# Altium schematic symbol library ACTION_SchematicDiagramPack.SCHLIB: 273 symbols (part 1 of 3)
Pins are listed as number, name and electrical type; pins without a type are passive.

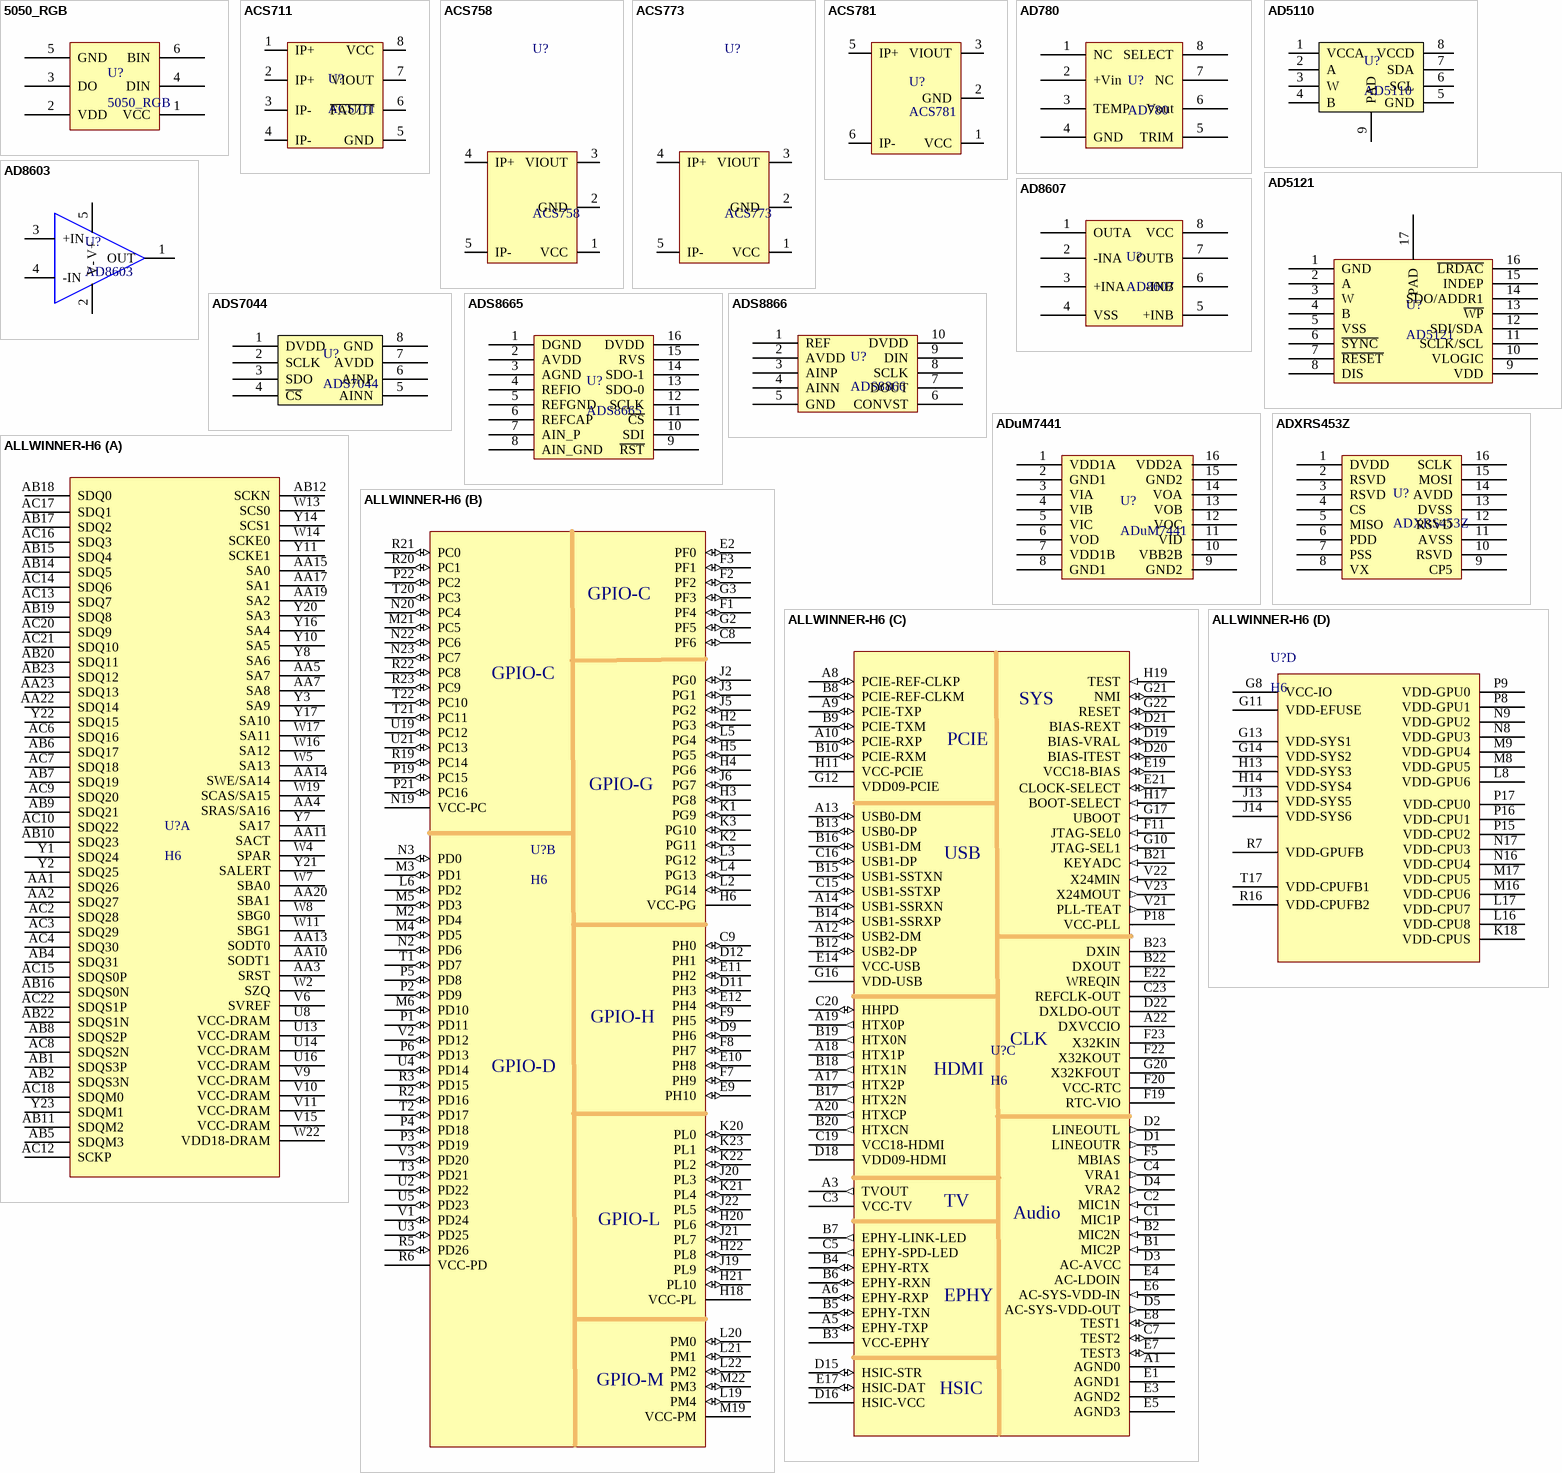
[diagram p0: symbols 5050_RGB to ALLWINNER-H6]

## 5050_RGB
designator U?
RGB LED
pins: 1 VCC, 2 VDD, 3 DO, 4 DIN, 5 GND, 6 BIN

## ACS711
designator U?
霍尔效应电流检测IC
footprint SOIC-8(4mm) (SOIC, 8-Leads, Body 5.0x4.0mm (max), Pitch 1.27mm, IPC Medium Density)
pins: 1 IP+, 2 IP+, 3 IP-, 4 IP-, 5 GND, 6 ~{FAULT}, 7 VIOUT, 8 VCC

## ACS758
designator U?
霍尔效应电流检测IC
footprint CB-5-PFF
pins: 1 VCC, 2 GND, 3 VIOUT, 4 IP+, 5 IP-

## ACS773
designator U?
霍尔效应电流检测IC
footprint CB-5-PFF
pins: 1 VCC, 2 GND, 3 VIOUT, 4 IP+, 5 IP-

## ACS781
designator U?
霍尔效应电流检测IC
footprint PSOF-7
pins: 1 VCC, 2 GND, 3 VIOUT, 5 IP+, 6 IP-

## AD780
designator U?
基准电压芯片
footprint DIP-8N
pins: 1 NC, 2 +Vin, 3 TEMP, 4 GND, 5 TRIM, 6 Vout, 7 NC, 8 SELECT

## AD5110
designator U?
数字电位器
footprint LFCSP-8
pins: 1 VCCA, 2 A, 3 W, 4 B, 5 GND, 6 SCL, 7 SDA, 8 VCCD, 9 PAD

## AD5121
designator U?
数字电位器
footprint LFCSP-16
pins: 1 GND, 2 A, 3 W, 4 B, 5 VSS, 6 ~{SYNC}, 7 ~{RESET}, 8 DIS, 9 VDD, 10 VLOGIC, 11 SCLK/SCL, 12 SDI/SDA, 13 ~{WP}, 14 SDO/ADDR1, 15 INDEP, 16 ~{LRDAC}, 17 PAD

## AD8603
designator U?
单通道运放
footprint SOT-235 (SOT23, 5-Leads, Body 3.0x2.6mm (max), Pitch 0.95mm, IPC Medium Density)
pins: 1 OUT, 2 V-, 3 +IN, 4 -IN, 5 V+

## AD8607
designator U?
双通道运放
footprint SOIC-8 (SOIC, 8-Leads, Body 5.0x4.0mm (max), Pitch 1.27mm, IPC Medium Density)
pins: 1 OUTA, 2 -INA, 3 +INA, 4 VSS, 5 +INB, 6 -INB, 7 OUTB, 8 VCC

## ADS7044
designator U?
ADC
footprint VSSOP-8 2.3*2.0mm
pins: 1 DVDD, 2 SCLK, 3 SDO, 4 ~{CS}, 5 AINN, 6 AINP, 7 AVDD, 8 GND

## ADS8665
designator U?
ADC
footprint TSSOP-16
pins: 1 DGND, 2 AVDD "同向模拟输入", 3 AGND "反向模拟输入", 4 REFIO, 5 REFGND, 6 REFCAP, 7 AIN_P (power) "高侧电", 8 AIN_GND (power) "高侧地", 9 ~{RST} "低侧地", 10 SDI, 11 ~{CS}, 12 SCLK, 13 SDO-0, 14 SDO-1 (power) "低侧电", 15 RVS, 16 DVDD (power)

## ADS8866
designator U?
ADC
footprint VSSOP-10
pins: 1 REF, 2 AVDD, 3 AINP, 4 AINN, 5 GND, 6 CONVST, 7 DOUT, 8 SCLK (power) "低侧电", 9 DIN, 10 DVDD (power)

## ADuM7441
designator U?
通信隔离
footprint QSOP-16
pins: 1 VDD1A, 2 GND1 "同向模拟输入", 3 VIA "反向模拟输入", 4 VIB, 5 VIC, 6 VOD, 7 VDD1B (power) "高侧电", 8 GND1 (power) "高侧地", 9 GND2 "低侧地", 10 VBB2B, 11 VID, 12 VOC, 13 VOB, 14 VOA (power) "低侧电", 15 GND2, 16 VDD2A (power)

## ADXRS453Z
designator U?
单轴陀螺仪
pins: 1 DVDD, 2 RSVD "同向模拟输入", 3 RSVD "反向模拟输入", 4 CS, 5 MISO, 6 PDD, 7 PSS (power) "高侧电", 8 VX (power) "高侧地", 9 CP5 "低侧地", 10 RSVD, 11 AVSS, 12 RSVD, 13 DVSS, 14 AVDD (power) "低侧电", 15 MOSI, 16 SCLK (power)

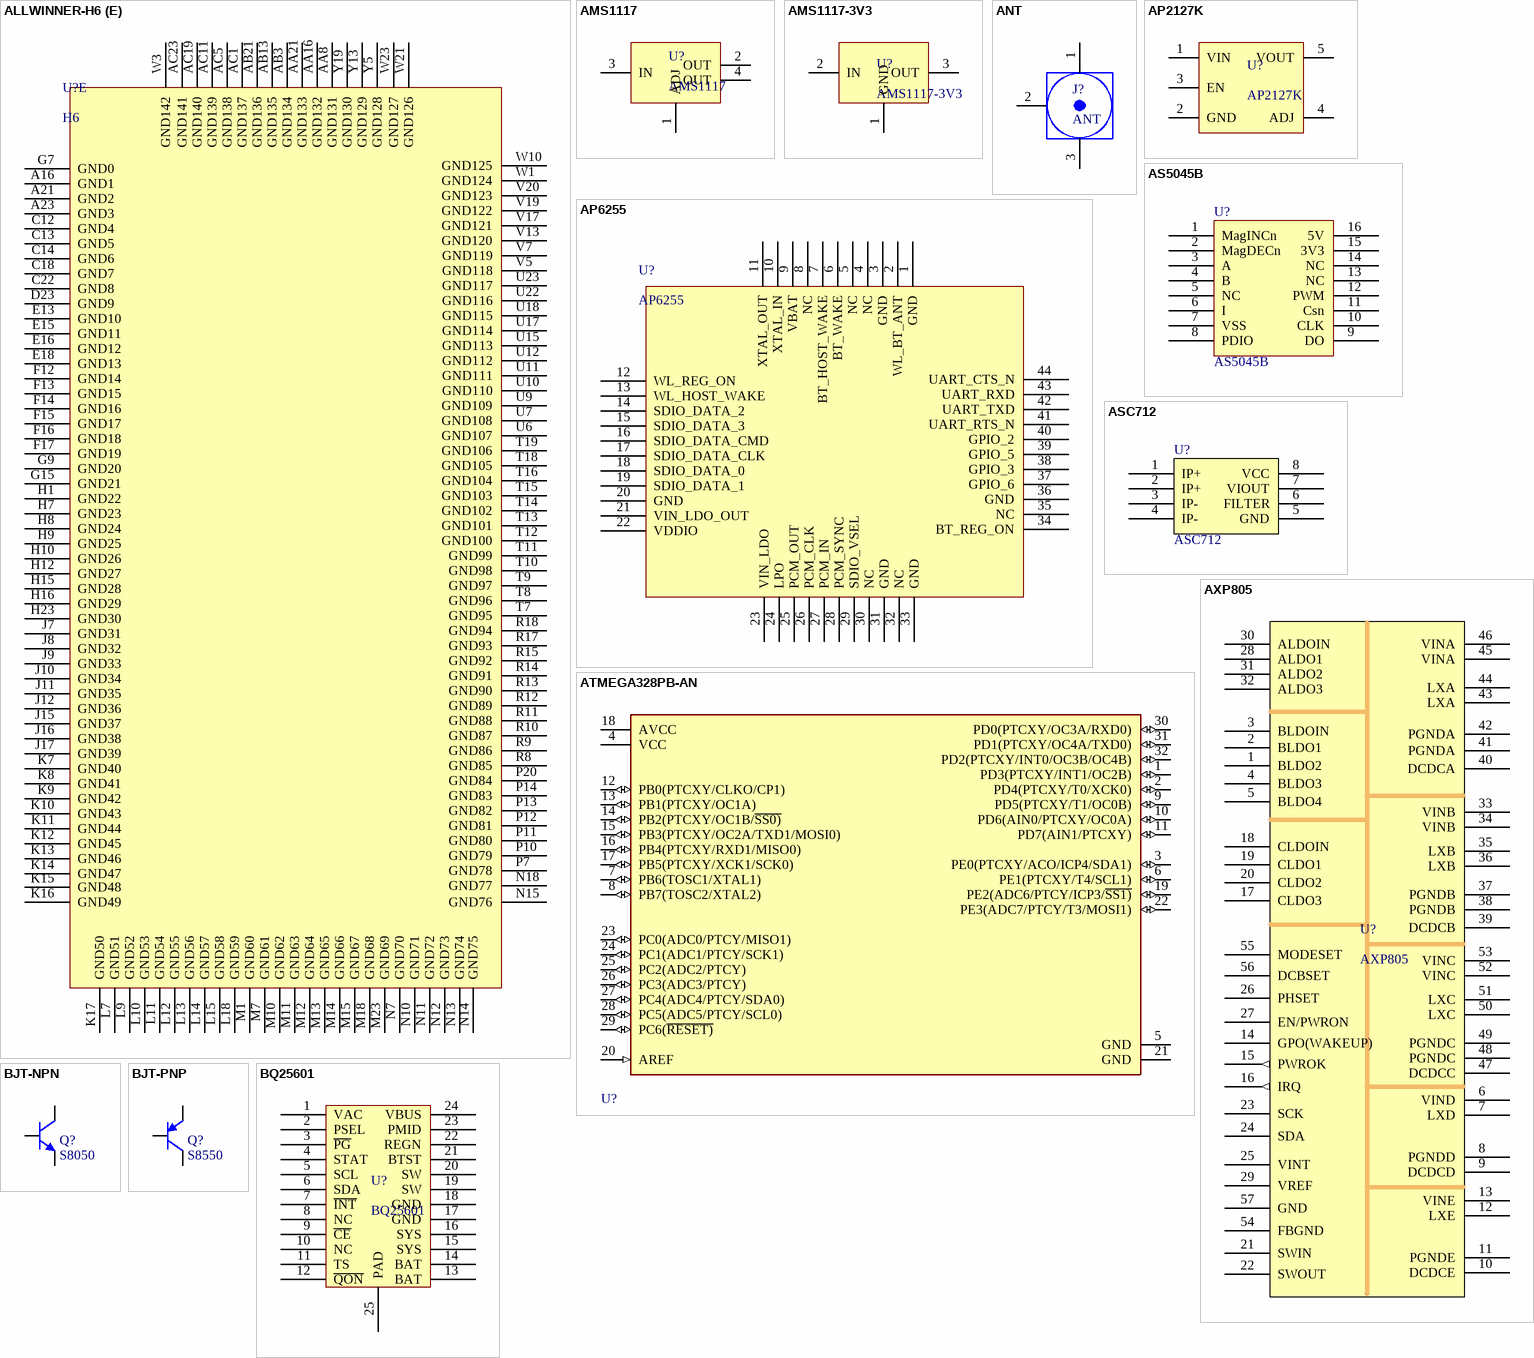
[diagram p1: symbols ALLWINNER-H6 to BQ25601]

## ALLWINNER-H6
designator U?, comment H6
CPU: Quad-core ARM Cortex -A53 Processor / GPU: Mali-T720 Multi-core / FBGA 451balls, 0.65mm ball pitch, 15mm x 15mm
part A pins: AA1 SDQ26, AA2 SDQ27, AA3 SRST, AA4 SRAS/SA16, AA5 SA7, AA7 SA8, AA10 SODT1, AA11 SACT, AA13 SODT0, AA14 SWE/SA14, AA15 SA0, AA17 SA1, AA19 SA2, AA20 SBA1, AA22 SDQ14, AA23 SDQ13, AB1 SDQS3P, AB2 SDQS3N, AB4 SDQ31, AB5 SDQM3, AB6 SDQ17, AB7 SDQ19, AB8 SDQS2P, AB9 SDQ21, AB10 SDQ23, AB11 SDQM2, AB12 SCKN, AB14 SDQ5, AB15 SDQ4, AB16 SDQS0N, AB17 SDQ2, AB18 SDQ0, AB19 SDQ8, AB20 SDQ11, AB22 SDQS1N, AB23 SDQ12, AC2 SDQ28, AC3 SDQ29, AC4 SDQ30, AC6 SDQ16, AC7 SDQ18, AC8 SDQS2N, AC9 SDQ20, AC10 SDQ22, AC12 SCKP, AC13 SDQ7, AC14 SDQ6, AC15 SDQS0P, AC16 SDQ3, AC17 SDQ1, AC18 SDQM0, AC20 SDQ9, AC21 SDQ10, AC22 SDQS1P, U8 VCC-DRAM, U13 VCC-DRAM, U14 VCC-DRAM, U16 VCC-DRAM, V6 SVREF, V9 VCC-DRAM, V10 VCC-DRAM, V11 VCC-DRAM, V15 VCC-DRAM, W2 SZQ, W4 SPAR, W5 SA13, W7 SBA0, W8 SBG0, W11 SBG1, W13 SCS0, W14 SCKE0, W16 SA12, W17 SA11, W19 SCAS/SA15, W22 VDD18-DRAM, Y1 SDQ24, Y2 SDQ25, Y3 SA9, Y7 SA17, Y8 SA6, Y10 SA5, Y11 SCKE1, Y14 SCS1, Y16 SA4, Y17 SA10, Y20 SA3, Y21 SALERT, Y22 SDQ15, Y23 SDQM1
part B pins: C8 PF6 (io), C9 PH0 (io), D9 PH6 (io), D11 PH3 (io), D12 PH1 (io), E2 PF0 (io), E9 PH10 (io), E10 PH8 (io), E11 PH2 (io), E12 PH4 (io), F1 PF4 (io), F2 PF2 (io), F3 PF1 (io), F7 PH9 (io), F8 PH7 (io), F9 PH5 (io), G2 PF5 (io), G3 PF3 (io), H2 PG3 (io), H3 PG8 (io), H4 PG6 (io), H5 PG5 (io), H6 VCC-PG (power), H18 VCC-PL (power), H20 PL6 (io), H21 PL10 (io), H22 PL8 (io), J2 PG0 (io), J3 PG1 (io), J5 PG2 (io), J6 PG7 (io), J19 PL9 (io), J20 PL3 (io), J21 PL7 (io), J22 PL5 (io), K1 PG9 (io), K2 PG11 (io), K3 PG10 (io), K20 PL0 (io), K21 PL4 (io), K22 PL2 (io), K23 PL1 (io), L2 PG14 (io), L3 PG12 (io), L4 PG13 (io), L5 PG4 (io), L6 PD2 (io), L19 PM4 (io), L20 PM0 (io), L21 PM1 (io), L22 PM2 (io), M2 PD4 (io), M3 PD1 (io), M4 PD5 (io), M5 PD3 (io), M6 PD10 (io), M19 VCC-PM (power), M21 PC5 (io), M22 PM3 (io), N2 PD6 (io), N3 PD0 (io), N19 VCC-PC (power), N20 PC4 (io), N22 PC6 (io), N23 PC7 (io), P1 PD11 (io), P2 PD9 (io), P3 PD19 (io), P4 PD18 (io), P5 PD8 (io), P6 PD13 (io), P19 PC15 (io), P21 PC16 (io), P22 PC2 (io), R2 PD16 (io), R3 PD15 (io), R5 PD26 (io), R6 VCC-PD (power), R19 PC14 (io), R20 PC1 (io), R21 PC0 (io), R22 PC8 (io), R23 PC9 (io), T1 PD7 (io), T2 PD17 (io), T3 PD21 (io), T20 PC3 (io), T21 PC11 (io), T22 PC10 (io), U2 PD22 (io), U3 PD25 (io), U4 PD14 (io), U5 PD23 (io), U19 PC12 (io), U21 PC13 (io), V1 PD24 (io), V2 PD12 (io), V3 PD20 (io)
part C pins: A1 AGND0 (power), A3 TVOUT (out), A5 EPHY-TXP (io), A6 EPHY-RXP (io), A8 PCIE-REF-CLKP (io), A9 PCIE-TXP (io), A10 PCIE-RXP (io), A12 USB2-DM (io), A13 USB0-DM (io), A14 USB1-SSRXN (io), A17 HTX2P (out), A18 HTX1P (out), A19 HTX0P (out), A20 HTXCP (out), A22 DXVCCIO, B1 MIC2P (in), B2 MIC2N (in), B3 VCC-EPHY (power), B4 EPHY-RTX (io), B5 EPHY-TXN (io), B6 EPHY-RXN (io), B7 EPHY-LINK-LED (out), B8 PCIE-REF-CLKM (io), B9 PCIE-TXM (io), B10 PCIE-RXM (io), B12 USB2-DP (io), B13 USB0-DP (io), B14 USB1-SSRXP (io), B15 USB1-SSTXN (io), B16 USB1-DM (io), B17 HTX2N (out), B18 HTX1N (out), B19 HTX0N (out), B20 HTXCN (out), B21 KEYADC (in), B22 DXOUT, B23 DXIN, C1 MIC1P (in), C2 MIC1N (in), C3 VCC-TV (power), C4 VRA1 (out), C5 EPHY-SPD-LED (out), C7 TEST2 (io), C15 USB1-SSTXP (io), C16 USB1-DP (io), C19 VCC18-HDMI (power), C20 HHPD (io), C23 REFCLK-OUT, D1 LINEOUTR (out), D2 LINEOUTL (out), D3 AC-AVCC (power), D4 VRA2 (out), D5 AC-SYS-VDD-OUT (out), D15 HSIC-STR (io), D16 HSIC-VCC (power), D18 VDD09-HDMI (power), D19 BIAS-VRAL (io), D20 BIAS-ITEST (io), D21 BIAS-REXT (io), D22 DXLDO-OUT, E1 AGND1 (power), E3 AGND2 (power), E4 AC-LDOIN (power), E5 AGND3 (power), E6 AC-SYS-VDD-IN (in), E7 TEST3 (io), E8 TEST1 (io), E14 VCC-USB (power), E17 HSIC-DAT (io), E19 VCC18-BIAS (io), E21 CLOCK-SELECT (io), E22 WREQIN, F5 MBIAS (out), F11 JTAG-SEL0 (in), F19 RTC-VIO, F20 VCC-RTC, F22 X32KOUT, F23 X32KIN, G10 JTAG-SEL1 (in), G12 VDD09-PCIE (power), G16 VDD-USB (power), G17 UBOOT (in), G20 X32KFOUT, G21 NMI (io), G22 RESET (io), H11 VCC-PCIE (power), H17 BOOT-SELECT (in), H19 TEST (in), P18 VCC-PLL (power), V21 PLL-TEAT (out), V22 X24MIN (in), V23 X24MOUT (out)
part D pins: G8 VCC-IO (power), G11 VDD-EFUSE (power), G13 VDD-SYS1 (power), G14 VDD-SYS2 (power), H13 VDD-SYS3 (power), H14 VDD-SYS4 (power), J13 VDD-SYS5 (power), J14 VDD-SYS6 (power), K18 VDD-CPUS (power), L8 VDD-GPU6 (power), L16 VDD-CPU8 (power), L17 VDD-CPU7 (power), M8 VDD-GPU5 (power), M9 VDD-GPU4 (power), M16 VDD-CPU6 (power), M17 VDD-CPU5 (power), N8 VDD-GPU3 (power), N9 VDD-GPU2 (power), N16 VDD-CPU4 (power), N17 VDD-CPU3 (power), P8 VDD-GPU1 (power), P9 VDD-GPU0 (power), P15 VDD-CPU2 (power), P16 VDD-CPU1 (power), P17 VDD-CPU0 (power), R7 VDD-GPUFB (power), R16 VDD-CPUFB2 (power), T17 VDD-CPUFB1 (power)
part E pins: A16 GND1 (power), A21 GND2 (power), A23 GND3 (power), AA8 GND131 (power), AA16 GND132 (power), AA21 GND133 (power), AB3 GND134 (power), AB13 GND135 (power), AB21 GND136 (power), AC1 GND137 (power), AC5 GND138 (power), AC11 GND139 (power), AC19 GND140 (power), AC23 GND141 (power), C12 GND4 (power), C13 GND5 (power), C14 GND6 (power), C18 GND7 (power), C22 GND8 (power), D23 GND9 (power), E13 GND10 (power), E15 GND11 (power), E16 GND12 (power), E18 GND13 (power), F12 GND14 (power), F13 GND15 (power), F14 GND16 (power), F15 GND17 (power), F16 GND18 (power), F17 GND19 (power), G7 GND0 (power), G9 GND20 (power), G15 GND21 (power), H1 GND22 (power), H7 GND23 (power), H8 GND24 (power), H9 GND25 (power), H10 GND26 (power), H12 GND27 (power), H15 GND28 (power), H16 GND29 (power), H23 GND30 (power), J7 GND31 (power), J8 GND32 (power), J9 GND33 (power), J10 GND34 (power), J11 GND35 (power), J12 GND36 (power), J15 GND37 (power), J16 GND38 (power), J17 GND39 (power), K7 GND40 (power), K8 GND41 (power), K9 GND42 (power), K10 GND43 (power), K11 GND44 (power), K12 GND45 (power), K13 GND46 (power), K14 GND47 (power), K15 GND48 (power), K16 GND49 (power), K17 GND50 (power), L7 GND51 (power), L9 GND52 (power), L10 GND53 (power), L11 GND54 (power), L12 GND55 (power), L13 GND56 (power), L14 GND57 (power), L15 GND58 (power), L18 GND59 (power), M1 GND60 (power), M7 GND61 (power), M10 GND62 (power), M11 GND63 (power), M12 GND64 (power), M13 GND65 (power), M14 GND66 (power), M15 GND67 (power), M18 GND68 (power), M23 GND69 (power), N7 GND70 (power), N10 GND71 (power), N11 GND72 (power), N12 GND73 (power), N13 GND74 (power), N14 GND75 (power), N15 GND76 (power), N18 GND77 (power), P7 GND78 (power), P10 GND79 (power), P11 GND80 (power), P12 GND81 (power), P13 GND82 (power), P14 GND83 (power), P20 GND84 (power), R8 GND85 (power), R9 GND86 (power), R10 GND87 (power), R11 GND88 (power), R12 GND89 (power), R13 GND90 (power), R14 GND91 (power), R15 GND92 (power), R17 GND93 (power), R18 GND94 (power), T7 GND95 (power), T8 GND96 (power), T9 GND97 (power), T10 GND98 (power), T11 GND99 (power), T12 GND100 (power), T13 GND101 (power), T14 GND102 (power), T15 GND103 (power), T16 GND104 (power), T18 GND105 (power), T19 GND106 (power), U6 GND107 (power), U7 GND108 (power), U9 GND109 (power), U10 GND110 (power), U11 GND111 (power), U12 GND112 (power), U15 GND113 (power), U17 GND114 (power), U18 GND115 (power), U22 GND116 (power), U23 GND117 (power), V5 GND118 (power), V7 GND119 (power), V13 GND120 (power), V17 GND121 (power), V19 GND122 (power), V20 GND123 (power), W1 GND124 (power), W3 GND142 (power), W10 GND125 (power), W21 GND126 (power), W23 GND127 (power), Y5 GND128 (power), Y13 GND129 (power), Y19 GND130 (power)
part B text: GPIO-C; GPIO-G; GPIO-H; GPIO-D; GPIO-L; GPIO-M
part C text: SYS; PCIE; USB; CLK; HDMI; TV; Audio; EPHY; HSIC

## AMS1117
designator U?
LDO
footprint SOT-223
pins: 1 ADJ, 2 OUT, 3 IN, 4 OUT

## AMS1117-3V3
designator U?
AMS1117-3V3(SOT-89封装)
pins: 1 GND, 2 IN, 3 OUT

## ANT
designator J?
天线
footprint ANT-IPX (U.FL)
pins: 1, 2, 3

## AP2127K
designator U?
LDO
footprint SOT-235 (SOT23, 5-Leads, Body 3.0x2.6mm (max), Pitch 0.95mm, IPC Medium Density)
pins: 1 VIN, 2 GND, 3 EN, 4 ADJ, 5 VOUT

## AP6255
designator U?
WL+BT
footprint AP6255
pins: 1 GND, 2 WL_BT_ANT, 3 GND, 4 NC, 5 NC, 6 BT_WAKE, 7 BT_HOST_WAKE, 8 NC, 9 VBAT, 10 XTAL_IN, 11 XTAL_OUT, 12 WL_REG_ON, 13 WL_HOST_WAKE, 14 SDIO_DATA_2, 15 SDIO_DATA_3, 16 SDIO_DATA_CMD, 17 SDIO_DATA_CLK, 18 SDIO_DATA_0, 19 SDIO_DATA_1, 20 GND, 21 VIN_LDO_OUT, 22 VDDIO, 23 VIN_LDO, 24 LPO, 25 PCM_OUT, 26 PCM_CLK, 27 PCM_IN, 28 PCM_SYNC, 29 SDIO_VSEL, 30 NC, 31 GND, 32 NC, 33 GND, 34 BT_REG_ON, 35 NC, 36 GND, 37 GPIO_6, 38 GPIO_3, 39 GPIO_5, 40 GPIO_2, 41 UART_RTS_N, 42 UART_TXD, 43 UART_RXD, 44 UART_CTS_N

## AS5045B
designator U?
磁编码器
footprint SSOP-16
pins: 1 MagINCn, 2 MagDECn, 3 A, 4 B, 5 NC, 6 I, 7 VSS, 8 PDIO, 9 DO, 10 CLK, 11 Csn, 12 PWM, 13 NC, 14 NC, 15 3V3, 16 5V

## ASC712
designator U?
霍尔效应电流检测IC
footprint SOP-8 (SOP, 8-Leads, Body 5.0x4.0mm (max), Pitch 1.27mm, IPC Medium Density)
pins: 1 IP+, 2 IP+, 3 IP-, 4 IP-, 5 GND, 6 FILTER, 7 VIOUT, 8 VCC

## ATMEGA328PB-AN
designator U?  (value not drawn)
footprint TQFP-32
pins: 1 PD3(PTCXY/INT1/OC2B) (io), 2 PD4(PTCXY/T0/XCK0) (io), 3 PE0(PTCXY/ACO/ICP4/SDA1) (io), 4 VCC (power), 5 GND (power), 6 PE1(PTCXY/T4/SCL1) (io), 7 PB6(TOSC1/XTAL1) (io), 8 PB7(TOSC2/XTAL2) (io), 9 PD5(PTCXY/T1/OC0B) (io), 10 PD6(AIN0/PTCXY/OC0A) (io), 11 PD7(AIN1/PTCXY) (io), 12 PB0(PTCXY/CLKO/CP1) (io), 13 PB1(PTCXY/OC1A) (io), 14 PB2(PTCXY/OC1B/~{SS0)} (io), 15 PB3(PTCXY/OC2A/TXD1/MOSI0) (io), 16 PB4(PTCXY/RXD1/MISO0) (io), 17 PB5(PTCXY/XCK1/SCK0) (io), 18 AVCC (power), 19 PE2(ADC6/PTCY/ICP3/~{SS1)} (io), 20 AREF (in), 21 GND (power), 22 PE3(ADC7/PTCY/T3/MOSI1) (io), 23 PC0(ADC0/PTCY/MISO1) (io), 24 PC1(ADC1/PTCY/SCK1) (io), 25 PC2(ADC2/PTCY) (io), 26 PC3(ADC3/PTCY) (io), 27 PC4(ADC4/PTCY/SDA0) (io), 28 PC5(ADC5/PTCY/SCL0) (io), 29 PC6(~{RESET)} (io), 30 PD0(PTCXY/OC3A/RXD0) (io), 31 PD1(PTCXY/OC4A/TXD0) (io), 32 PD2(PTCXY/INT0/OC3B/OC4B) (io)

## AXP805
designator U?
高度集成电源管理芯片。具有五路同步降压转换器（DCDC），多相供电功能，10路线性稳压器
footprint QFN-56-7X7
pins: 1 BLDO2, 2 BLDO1, 3 BLDOIN, 4 BLDO3, 5 BLDO4, 6 VIND, 7 LXD, 8 PGNDD, 9 DCDCD, 10 DCDCE, 11 PGNDE, 12 LXE, 13 VINE, 14 GPO(WAKEUP), 15 PWROK (out), 16 IRQ (out), 17 CLDO3, 18 CLDOIN, 19 CLDO1, 20 CLDO2, 21 SWIN, 22 SWOUT, 23 SCK, 24 SDA, 25 VINT, 26 PHSET, 27 EN/PWRON, 28 ALDO1, 29 VREF, 30 ALDOIN, 31 ALDO2, 32 ALDO3, 33 VINB, 34 VINB, 35 LXB, 36 LXB, 37 PGNDB, 38 PGNDB, 39 DCDCB, 40 DCDCA, 41 PGNDA, 42 PGNDA, 43 LXA, 44 LXA, 45 VINA, 46 VINA, 47 DCDCC, 48 PGNDC, 49 PGNDC, 50 LXC, 51 LXC, 52 VINC, 53 VINC, 54 FBGND, 55 MODESET, 56 DCBSET, 57 GND

## BJT-NPN
designator Q?, comment S8050
NPN
footprint SOT-233
pins: 1 B, 2 E, 3 C

## BJT-PNP
designator Q?, comment S8550
PNP
footprint SOT-233
pins: 1 B, 2 E, 3 C

## BQ25601
designator U?
IIC总线式电池充电IC(Li-ion/Li-Polymer)
footprint WQFN-24 (QFN, 24-Leads, Body 4.00x4.00mm, Pitch 0.50mm, Thermal Pad 2.70x2.70mm, IPC Medium Density)
pins: 1 VAC, 2 PSEL, 3 ~{PG}, 4 STAT, 5 SCL, 6 SDA, 7 ~{INT}, 8 NC "高侧地", 9 ~{CE}, 10 NC, 11 TS, 12 ~{QON}, 13 BAT, 14 BAT, 15 SYS, 16 SYS, 17 GND, 18 GND, 19 SW, 20 SW "高侧地", 21 BTST, 22 REGN, 23 PMID, 24 VBUS, 25 PAD

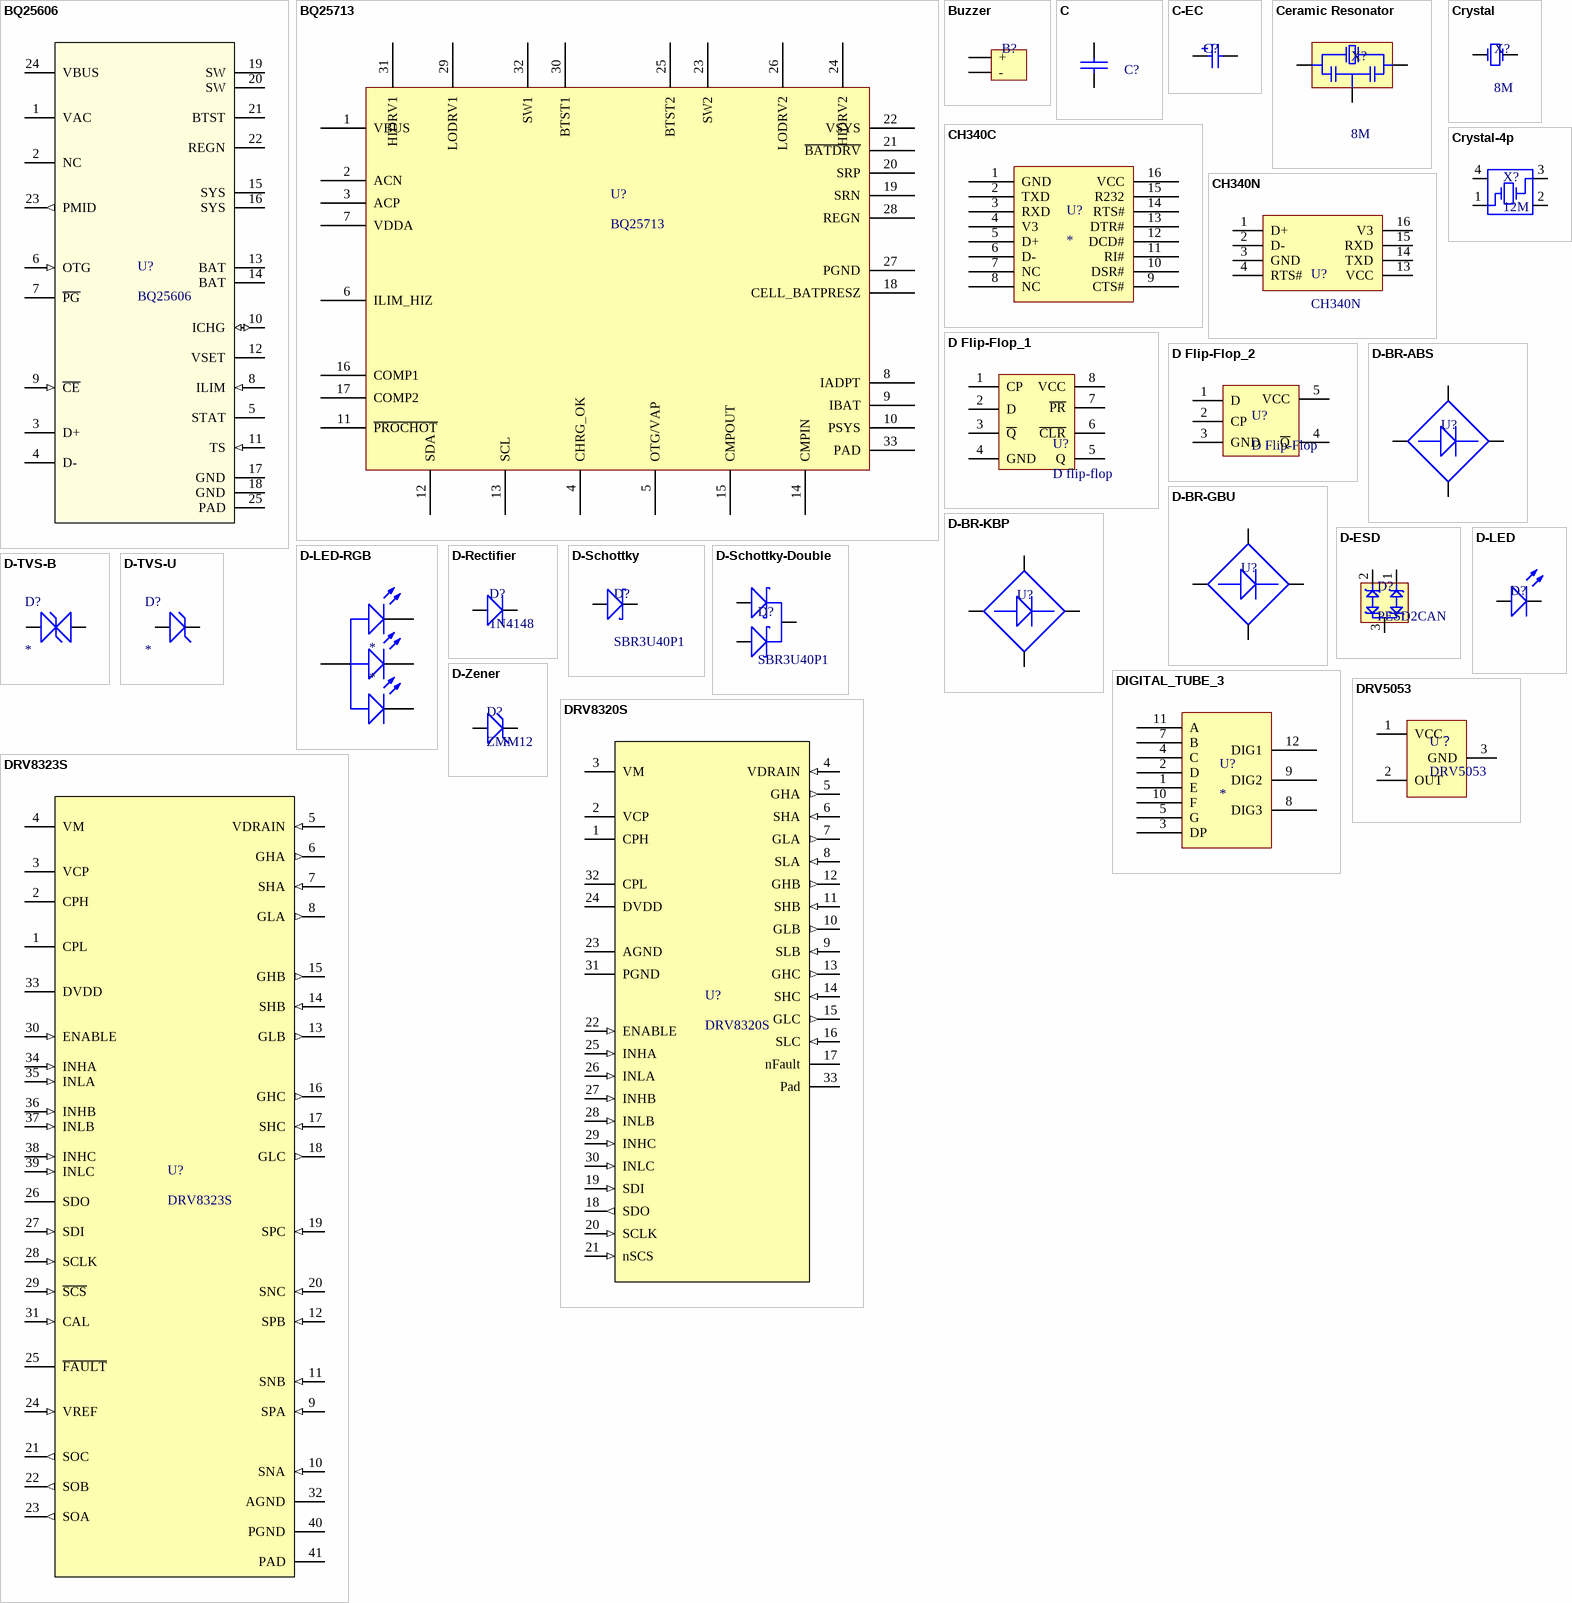
[diagram p2: symbols BQ25606 to DRV8323S]

## BQ25606
designator U?
脱机式电池充电IC(Li-ion/Li-Polymer)
footprint WQFN-24 (QFN, 24-Leads, Body 4.00x4.00mm, Pitch 0.50mm, Thermal Pad 2.70x2.70mm, IPC Medium Density)
pins: 1 VAC (power), 2 NC, 3 D+, 4 D-, 5 STAT (oc), 6 OTG (in), 7 ~{PG} (oc), 8 ILIM (in), 9 ~{CE} (in), 10 ICHG (io), 11 TS (in), 12 VSET, 13 BAT (power), 14 BAT (power), 15 SYS (power), 16 SYS (power), 17 GND (power), 18 GND (power), 19 SW (power), 20 SW (power), 21 BTST (power), 22 REGN (power), 23 PMID (out), 24 VBUS (power), 25 PAD (power)

## BQ25713
designator U?
电池充电IC(Li-ion/Li-Polymer/LiFePO4)
footprint WQFN-32
pins: 1 VBUS, 2 ACN, 3 ACP, 4 CHRG_OK, 5 OTG/VAP, 6 ILIM_HIZ, 7 VDDA, 8 IADPT, 9 IBAT, 10 PSYS, 11 ~{PROCHOT}, 12 SDA, 13 SCL, 14 CMPIN, 15 CMPOUT, 16 COMP1, 17 COMP2, 18 CELL_BATPRESZ, 19 SRN, 20 SRP "高侧地", 21 ~{BATDRV}, 22 VSYS, 23 SW2, 24 HIDRV2, 25 BTST2, 26 LODRV2, 27 PGND, 28 REGN, 29 LODRV1, 30 BTST1, 31 HIDRV1, 32 SW1, 33 PAD

## Buzzer
designator B?  (value not drawn)
蜂鸣器
footprint 蜂鸣器 9mm
pins: 1 +, 2 -

## C
designator C?
Non Polarised
footprint C-0402
footprint C-0603
footprint C-0805
footprint C-1206
footprint C-1210
footprint C-2220
footprint C-18.0*8.4-15.0
pins: 1, 2

## C-EC
designator C?
Electrolytic Capacitor
footprint CE-5.0-3.5
footprint CE-6.3-2.5
footprint CE-8.0-3.5
footprint CE-10.0-5.0
footprint CE-12.5-5.0
footprint CE-5.5
footprint CE-6.5
footprint CE-8.0
footprint CE-10.0
footprint CE-12.5
footprint CE-Ta-2917
footprint CE-30.0-10.0
footprint CE-18.0-7.5
footprint CE-16-20
pins: 1, 2
1 alternate drawing of the same symbol

## Ceramic Resonator
designator X?, comment 8M
Ceramic Resonator
footprint X-CSTCE8M
pins: 1 OSCIN, 2 GND, 3 OSCOUT

## CH340C
designator U?
USB转TTL
pins: 1 GND, 2 TXD, 3 RXD, 4 V3, 5 D+, 6 D-, 7 NC, 8 NC, 9 CTS#, 10 DSR#, 11 RI#, 12 DCD#, 13 DTR#, 14 RTS#, 15 R232, 16 VCC

## CH340N
designator U?
footprint SOP-8 (SOP, 8-Leads, Body 5.0x4.0mm (max), Pitch 1.27mm, IPC Medium Density)
pins: 1 D+, 2 D-, 3 GND, 4 RTS#, 13 VCC, 14 TXD, 15 RXD, 16 V3

## Crystal
designator X?, comment 8M
Crystal Oscillator; Published: 8-Jun-2000; LatestRevisionDate: 17-Jul-2002; LatestRevisionNote: Re-released for DXP Platform.; PackageReference: R38; Publisher: Altium Limited
footprint X-HC49S
footprint X-5032
footprint X-HC49SMD
footprint X-SMD-3215-2P
pins: 1 OSC1, 2 OSC2

## Crystal-4p
designator X?, comment 12M
Crystal Oscillator
footprint X-SMD-3225-4P
pins: 1 OSC1, 2 GND, 3 OSC2, 4 GND

## D Flip-Flop_1
designator U?, comment D flip-flop
pins: 1 CP, 2 D, 3 ~{Q}, 4 GND, 5 Q, 6 ~{CLR}, 7 ~{PR}, 8 VCC

## D Flip-Flop_2
designator U?, comment D Flip-Flop
footprint SC-70-5
pins: 1 D, 2 CP, 3 GND, 4 ~{Q}, 5 VCC

## D-BR-ABS
designator U?
ABS封装整流桥
footprint D-BR-ABS
pins: 1 AC, 2 AC, 3 DC+, 4 DC-

## D-BR-GBU
designator U?
GBU封装整流桥
footprint D-BR-GBU
pins: 1 DC+, 2 AC, 3 AC, 4 DC-

## D-BR-KBP
designator U?
KBP封装整流桥
footprint D-BR-KBP
pins: 1 DC+, 2 AC, 3 AC, 4 DC-

## D-ESD
designator D?, comment PESD2CAN
组合ESD二极管
footprint SOT-233
pins: 1, 2, 3

## D-LED
designator D?
LED
footprint D-LED-0805
footprint D-LED-2.5-2.0
footprint D-LED-0603Blue
footprint D-LED-0603Green
footprint D-LED-0603Red
footprint D-LED-0603White
footprint D-LED-0603Yellow
footprint D-LED-3.0-2.54
pins: 1, 2

## D-LED-RGB
designator *
footprint D-LED-5mm(4PIN)
pins: 1 RED, 2, 3 GREEN, 4 BLUE

## D-Rectifier
designator D?, comment 1N4148
Rectifier
pins: 1 A, 2 K

## D-Schottky
designator D?, comment SBR3U40P1
Schottky
footprint D-PowerDI 123
footprint DO-214AB(SMC)
footprint DO-214AC(SMA)
pins: 1, 2

## D-Schottky-Double
designator D?, comment SBR3U40P1
Schottky
footprint TO-263-3
pins: 1, 2, 3

## D-TVS-B
designator D?
双向TVS
footprint DFN1006-2L
footprint D-FBP-02C
pins: 1 A, 2 K

## D-TVS-U
designator D?
单向TVS
pins: 1 A, 2 K

## D-Zener
designator D?, comment ZMM12
Zener
footprint D-1n4148-圆柱
pins: 1 A, 2 K

## DIGITAL_TUBE_3
designator U?
3位数码管
pins: 1 E, 2 D, 3 DP, 4 C, 5 G, 7 B, 8 DIG3, 9 DIG2, 10 F, 11 A, 12 DIG1

## DRV5053
designator U？
线性霍尔
pins: 1 VCC, 2 OUT, 3 GND

## DRV8320S
designator U?
智能三相栅极驱动器
footprint WQFN-32
pins: 1 CPH, 2 VCP (power), 3 VM (power), 4 VDRAIN (in), 5 GHA (out), 6 SHA (in), 7 GLA (out), 8 SLA (in), 9 SLB (in), 10 GLB (out), 11 SHB (in), 12 GHB (out), 13 GHC (out), 14 SHC (in), 15 GLC (out), 16 SLC (in), 17 nFault (oc), 18 SDO (out), 19 SDI (in), 20 SCLK (in), 21 nSCS (in), 22 ENABLE (in), 23 AGND (power), 24 DVDD (power), 25 INHA (in), 26 INLA (in), 27 INHB (in), 28 INLB (in), 29 INHC (in), 30 INLC (in), 31 PGND (power), 32 CPL, 33 Pad (power)

## DRV8323S
designator U?
智能三相栅极驱动器; Manufacturer: Texas Instruments; PartNumber: DRV8323S; RefDes: RefDes; TYPE: TYPE; Value: Value
footprint WQFN-40
pins: 1 CPL, 2 CPH, 3 VCP (power), 4 VM (power), 5 VDRAIN (in), 6 GHA (out), 7 SHA (in), 8 GLA (out), 9 SPA (in), 10 SNA (in), 11 SNB (in), 12 SPB (in), 13 GLB (out), 14 SHB (in), 15 GHB (out), 16 GHC (out), 17 SHC (in), 18 GLC (out), 19 SPC (in), 20 SNC (in), 21 SOC (out), 22 SOB (out), 23 SOA (out), 24 VREF (in), 25 ~{FAULT} (oc), 26 SDO, 27 SDI (in), 28 SCLK (in), 29 ~{SCS} (in), 30 ENABLE (in), 31 CAL (in), 32 AGND (power), 33 DVDD (power), 34 INHA (in), 35 INLA (in), 36 INHB (in), 37 INLB (in), 38 INHC (in), 39 INLC (in), 40 PGND (power), 41 PAD (power)

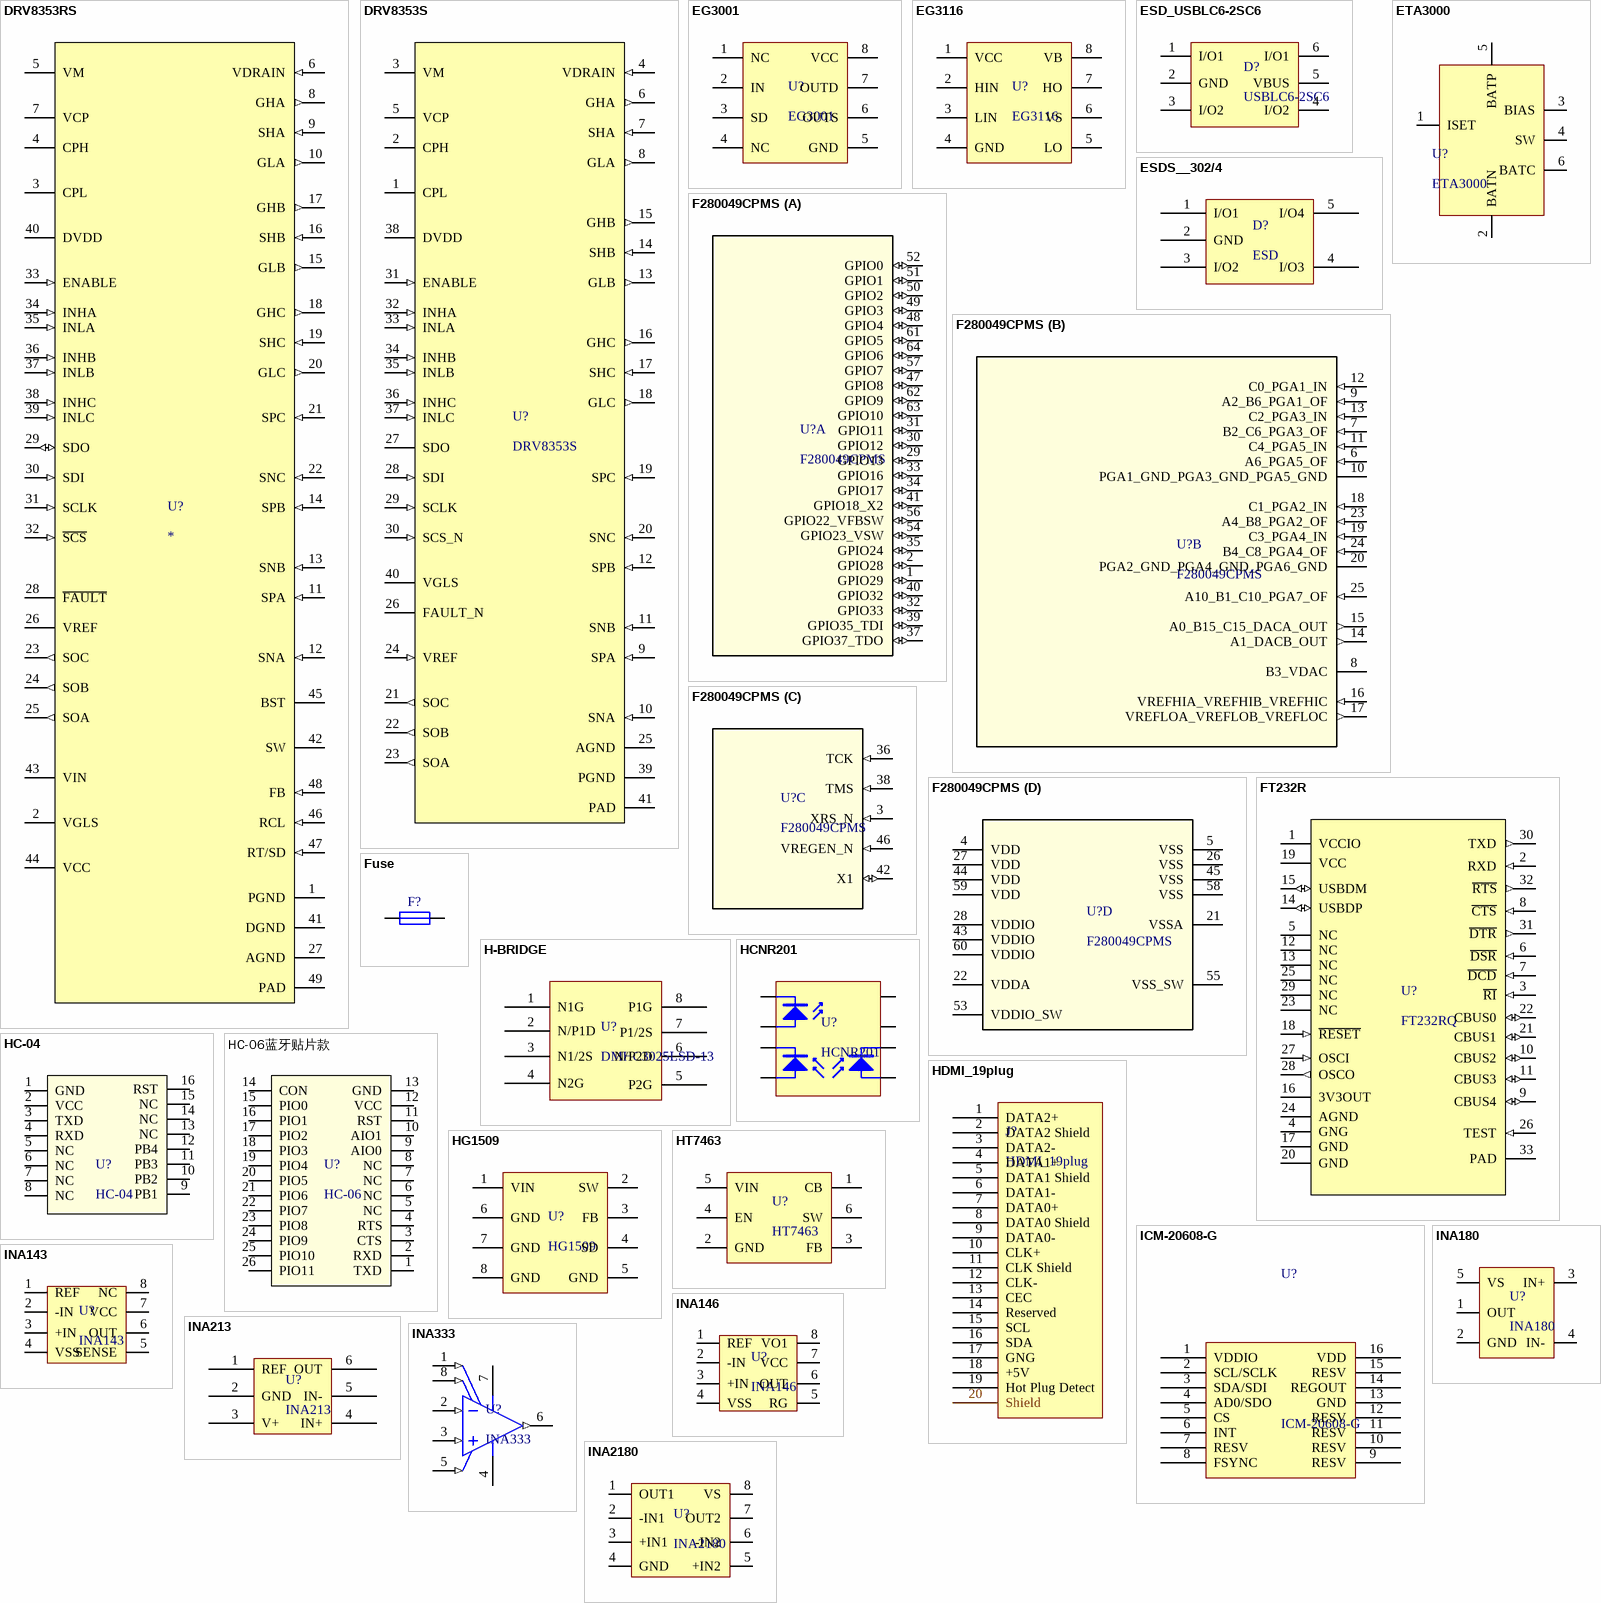
[diagram p3: symbols DRV8353RS to INA2180]

## DRV8353RS
designator U?
智能三相栅极驱动器; Manufacturer: Texas Instruments; PartNumber: DRV8353RHRGZR; RefDes: RefDes; Type: DEV; Value: Value; Copyright: Copyright (C) 2018 Accelerated Designs. All rights reserved
footprint RGZ0048L
pins: 1 PGND (power), 2 VGLS (power), 3 CPL (power), 4 CPH (power), 5 VM (power), 6 VDRAIN (in), 7 VCP (power), 8 GHA (out), 9 SHA (in), 10 GLA (out), 11 SPA (in), 12 SNA (in), 13 SNB (in), 14 SPB (in), 15 GLB (out), 16 SHB (in), 17 GHB (out), 18 GHC (out), 19 SHC (in), 20 GLC (out), 21 SPC (in), 22 SNC (in), 23 SOC (out), 24 SOB (out), 25 SOA (out), 26 VREF (power), 27 AGND (power), 28 ~{FAULT} (oc), 29 SDO (io), 30 SDI (in), 31 SCLK (in), 32 ~{SCS} (in), 33 ENABLE (in), 34 INHA (in), 35 INLA (in), 36 INHB (in), 37 INLB (in), 38 INHC (in), 39 INLC (in), 40 DVDD (power), 41 DGND (power), 42 SW (power), 43 VIN (power), 44 VCC (power), 45 BST (power), 46 RCL (in), 47 RT/SD (in), 48 FB (in), 49 PAD (power)

## DRV8353S
designator U?
智能三相栅极驱动器; PartNumber: DRV8353SRTAR; Manufacturer: Texas Instruments; RefDes: RefDes; TYPE: TYPE; Value: Value
footprint WQFN-40
pins: 1 CPL, 2 CPH, 3 VM (power), 4 VDRAIN (in), 5 VCP (power), 6 GHA (out), 7 SHA (in), 8 GLA (out), 9 SPA (in), 10 SNA (in), 11 SNB (in), 12 SPB (in), 13 GLB (out), 14 SHB (in), 15 GHB (out), 16 GHC (out), 17 SHC (in), 18 GLC (out), 19 SPC (in), 20 SNC (in), 21 SOC (out), 22 SOB (out), 23 SOA (out), 24 VREF (in), 25 AGND (power), 26 FAULT_N (oc), 27 SDO, 28 SDI (in), 29 SCLK (in), 30 SCS_N (in), 31 ENABLE (in), 32 INHA (in), 33 INLA (in), 34 INHB (in), 35 INLB (in), 36 INHC (in), 37 INLC (in), 38 DVDD (power), 39 PGND (power), 40 VGLS (power), 41 PAD (power)

## EG3001
designator U?
低侧驱动器
footprint SOIC-8(4mm) (SOIC, 8-Leads, Body 5.0x4.0mm (max), Pitch 1.27mm, IPC Medium Density)
pins: 1 NC, 2 IN, 3 SD, 4 NC, 5 GND, 6 OUTS, 7 OUTD, 8 VCC

## EG3116
designator U?
半桥驱动器
footprint SOIC-8(4mm) (SOIC, 8-Leads, Body 5.0x4.0mm (max), Pitch 1.27mm, IPC Medium Density)
pins: 1 VCC, 2 HIN, 3 LIN, 4 GND, 5 LO, 6 VS, 7 HO, 8 VB

## ESD_USBLC6-2SC6
designator D?, comment USBLC6-2SC6
USB ESD芯片 3.5PF(适用于2.0)
footprint SOT-236
pins: 1 I/O1, 2 GND, 3 I/O2, 4 I/O2, 5 VBUS, 6 I/O1

## ESDS__302/4
designator D?, comment ESD
The ESDS302, ESDS304 devices are bidirectional TVS ESD protection diode array in two and four channel configurations respectively, for Ethernet and USB surge protection up to 12 A (8/20 μs). The ESDS302, ESDS304 devices are rated to dissipate ESD strikes up to 30 kV per the IEC 61000-4-2 international standard (> Level 4). / The devices features a 2.3-pF IO capacitance per channel making it ideal for protecting high-speed interfaces such as Ethernet 1G and USB 2.0.
footprint SOT-235 (SOT23, 5-Leads, Body 3.0x2.6mm (max), Pitch 0.95mm, IPC Medium Density)
pins: 1 I/O1, 2 GND, 3 I/O2, 4 I/O3, 5 I/O4

## ETA3000
designator U?
锂电池主动式平衡芯片 MAX = 2A
footprint SOT-236
pins: 1 ISET, 2 BATN, 3 BIAS, 4 SW, 5 BATP "0", 6 BATC

## F280049CPMS
designator U?
TMS320C28x 32 位 CPU – 100MHz – IEEE-754 单精度浮点单元 (FPU) – 三角法数学单元 (TMU) 可编程控制律加速器 (CLA)
part A pins: 1 GPIO29 (io), 2 GPIO28 (io), 29 GPIO13 (io), 30 GPIO12 (io), 31 GPIO11 (io), 32 GPIO33 (io), 33 GPIO16 (io), 34 GPIO17 (io), 35 GPIO24 (io), 37 GPIO37_TDO (io), 39 GPIO35_TDI (io), 40 GPIO32 (io), 41 GPIO18_X2 (io), 47 GPIO8 (io), 48 GPIO4 (io), 49 GPIO3 (io), 50 GPIO2 (io), 51 GPIO1 (io), 52 GPIO0 (io), 54 GPIO23_VSW (io), 56 GPIO22_VFBSW (io), 57 GPIO7 (io), 61 GPIO5 (io), 62 GPIO9 (io), 63 GPIO10 (io), 64 GPIO6 (io)
part B pins: 6 A6_PGA5_OF (in), 7 B2_C6_PGA3_OF (in), 8 B3_VDAC, 9 A2_B6_PGA1_OF (in), 10 PGA1_GND_PGA3_GND_PGA5_GND (power), 11 C4_PGA5_IN (in), 12 C0_PGA1_IN (in), 13 C2_PGA3_IN (in), 14 A1_DACB_OUT (out), 15 A0_B15_C15_DACA_OUT (out), 16 VREFHIA_VREFHIB_VREFHIC (in), 17 VREFLOA_VREFLOB_VREFLOC (out), 18 C1_PGA2_IN (in), 19 C3_PGA4_IN (in), 20 PGA2_GND_PGA4_GND_PGA6_GND (power), 23 A4_B8_PGA2_OF (in), 24 B4_C8_PGA4_OF (in), 25 A10_B1_C10_PGA7_OF (in)
part C pins: 3 XRS_N (in), 36 TCK (in), 38 TMS (in), 42 X1 (io), 46 VREGEN_N (in)
part D pins: 4 VDD (power), 5 VSS (power), 21 VSSA (power), 22 VDDA (power), 26 VSS (power), 27 VDD (power), 28 VDDIO (power), 43 VDDIO (power), 44 VDD (power), 45 VSS (power), 53 VDDIO_SW (power), 55 VSS_SW (power), 58 VSS (power), 59 VDD (power), 60 VDDIO (power)

## FT232R
designator U?, comment FT232RQ
USB-TTL(稳定，不会蓝屏)
footprint WQFN-32
pins: 1 VCCIO (power), 2 RXD (in), 3 ~{RI} (in), 4 GNG (power), 5 NC, 6 ~{DSR} (in), 7 ~{DCD} (in), 8 ~{CTS} (in), 9 CBUS4 (io), 10 CBUS2 (io), 11 CBUS3 (io), 12 NC, 13 NC, 14 USBDP (io), 15 USBDM (io), 16 3V3OUT (power), 17 GND (power), 18 ~{RESET} (in), 19 VCC (power), 20 GND (power), 21 CBUS1 (io), 22 CBUS0 (io), 23 NC, 24 AGND (power), 25 NC, 26 TEST (in), 27 OSCI (in), 28 OSCO (out), 29 NC, 30 TXD (out), 31 ~{DTR} (out), 32 ~{RTS} (out), 33 PAD (power)

## Fuse
designator F?
Fuse
footprint FUSE-8.5-5.0
pins: 1, 2

## H-BRIDGE
designator U?, comment DMHC3025LSD-13
30V  H-BRIDGE / SOIC-8封装
pins: 1 N1G, 2 N/P1D, 3 N1/2S, 4 N2G, 5 P2G, 6 N/P2D, 7 P1/2S, 8 P1G

## HC-04
designator U?
HC-04蓝牙贴片款
footprint HC-04贴片16P
pins: 1 GND, 2 VCC, 3 TXD, 4 RXD, 5 NC, 6 NC, 7 NC, 8 NC, 9 PB1, 10 PB2, 11 PB3, 12 PB4, 13 NC, 14 NC, 15 NC, 16 RST

## HC-06蓝牙贴片款
designator U?, comment HC-06
Telesky旗舰店购买的HC-06
footprint HC-06蓝牙贴片款
pins: 1 TXD, 2 RXD, 3 CTS, 4 RTS, 5 NC, 6 NC, 7 NC, 8 NC, 9 AIO0, 10 AIO1, 11 RST, 12 VCC, 13 GND, 14 CON, 15 PIO0, 16 PIO1, 17 PIO2, 18 PIO3, 19 PIO4, 20 PIO5, 21 PIO6, 22 PIO7, 23 PIO8, 24 PIO9, 25 PIO10, 26 PIO11

## HCNR201
designator U?
线性光耦
footprint HCNR201
pins: 1 K, 2 LED A, 3 PD1 K, 4 PD1 A, 5 PD2 A, 6 PD2 K, 7 NC, 8 NC

## HDMI_19plug
designator J?
HDMI标准接口
footprint HDMI-19P
pins: 1 DATA2+, 2 DATA2 Shield, 3 DATA2-, 4 DATA1+, 5 DATA1 Shield, 6 DATA1-, 7 DATA0+, 8 DATA0 Shield, 9 DATA0-, 10 CLK+, 11 CLK Shield, 12 CLK-, 13 CEC, 14 Reserved, 15 SCL, 16 SDA, 17 GNG, 18 +5V, 19 Hot Plug Detect, 20 Shield

## HG1509
designator U?
Buck
footprint SOIC-8(4mm) (SOIC, 8-Leads, Body 5.0x4.0mm (max), Pitch 1.27mm, IPC Medium Density)
pins: 1 VIN, 2 SW, 3 FB, 4 SD, 5 GND, 6 GND, 7 GND, 8 GND

## HT7463
designator U?
Buck Converter
footprint SOT-236
pins: 1 CB, 2 GND, 3 FB, 4 EN, 5 VIN, 6 SW

## ICM-20608-G
designator U?
陀螺仪
footprint ICM-20608-G
pins: 1 VDDIO, 2 SCL/SCLK, 3 SDA/SDI, 4 AD0/SDO, 5 CS, 6 INT, 7 RESV, 8 FSYNC, 9 RESV, 10 RESV, 11 RESV, 12 RESV, 13 GND, 14 REGOUT, 15 RESV, 16 VDD

## INA143
designator U?
电流检测IC
footprint SO-8W
pins: 1 REF, 2 -IN, 3 +IN, 4 VSS, 5 SENSE, 6 OUT, 7 VCC, 8 NC

## INA146
designator U?
电流检测IC
footprint SOIC-8 (SOIC, 8-Leads, Body 5.0x4.0mm (max), Pitch 1.27mm, IPC Medium Density)
pins: 1 REF, 2 -IN, 3 +IN, 4 VSS, 5 RG, 6 OUT, 7 VCC, 8 VO1

## INA180
designator U?
电流检测IC
footprint SOT-235 (SOT23, 5-Leads, Body 3.0x2.6mm (max), Pitch 0.95mm, IPC Medium Density)
pins: 1 OUT, 2 GND, 3 IN+, 4 IN-, 5 VS

## INA213
designator U?
电流检测IC
footprint SOT-363
pins: 1 REF, 2 GND, 3 V+, 4 IN+, 5 IN-, 6 OUT

## INA333
designator U?
低偏置 精密仪表放大器
footprint MSOP-8
pins: 1 RG (in), 2 VIN- (in), 3 VIN+ (in), 4 V- (power), 5 REF (in), 6 VOUT (out), 7 V+ (power), 8 RG (in)

## INA2180
designator U?
电流检测IC
footprint VSSOP-8 3.0*3.0mm
pins: 1 OUT1, 2 -IN1, 3 +IN1, 4 GND, 5 +IN2, 6 -IN2, 7 OUT2, 8 VS

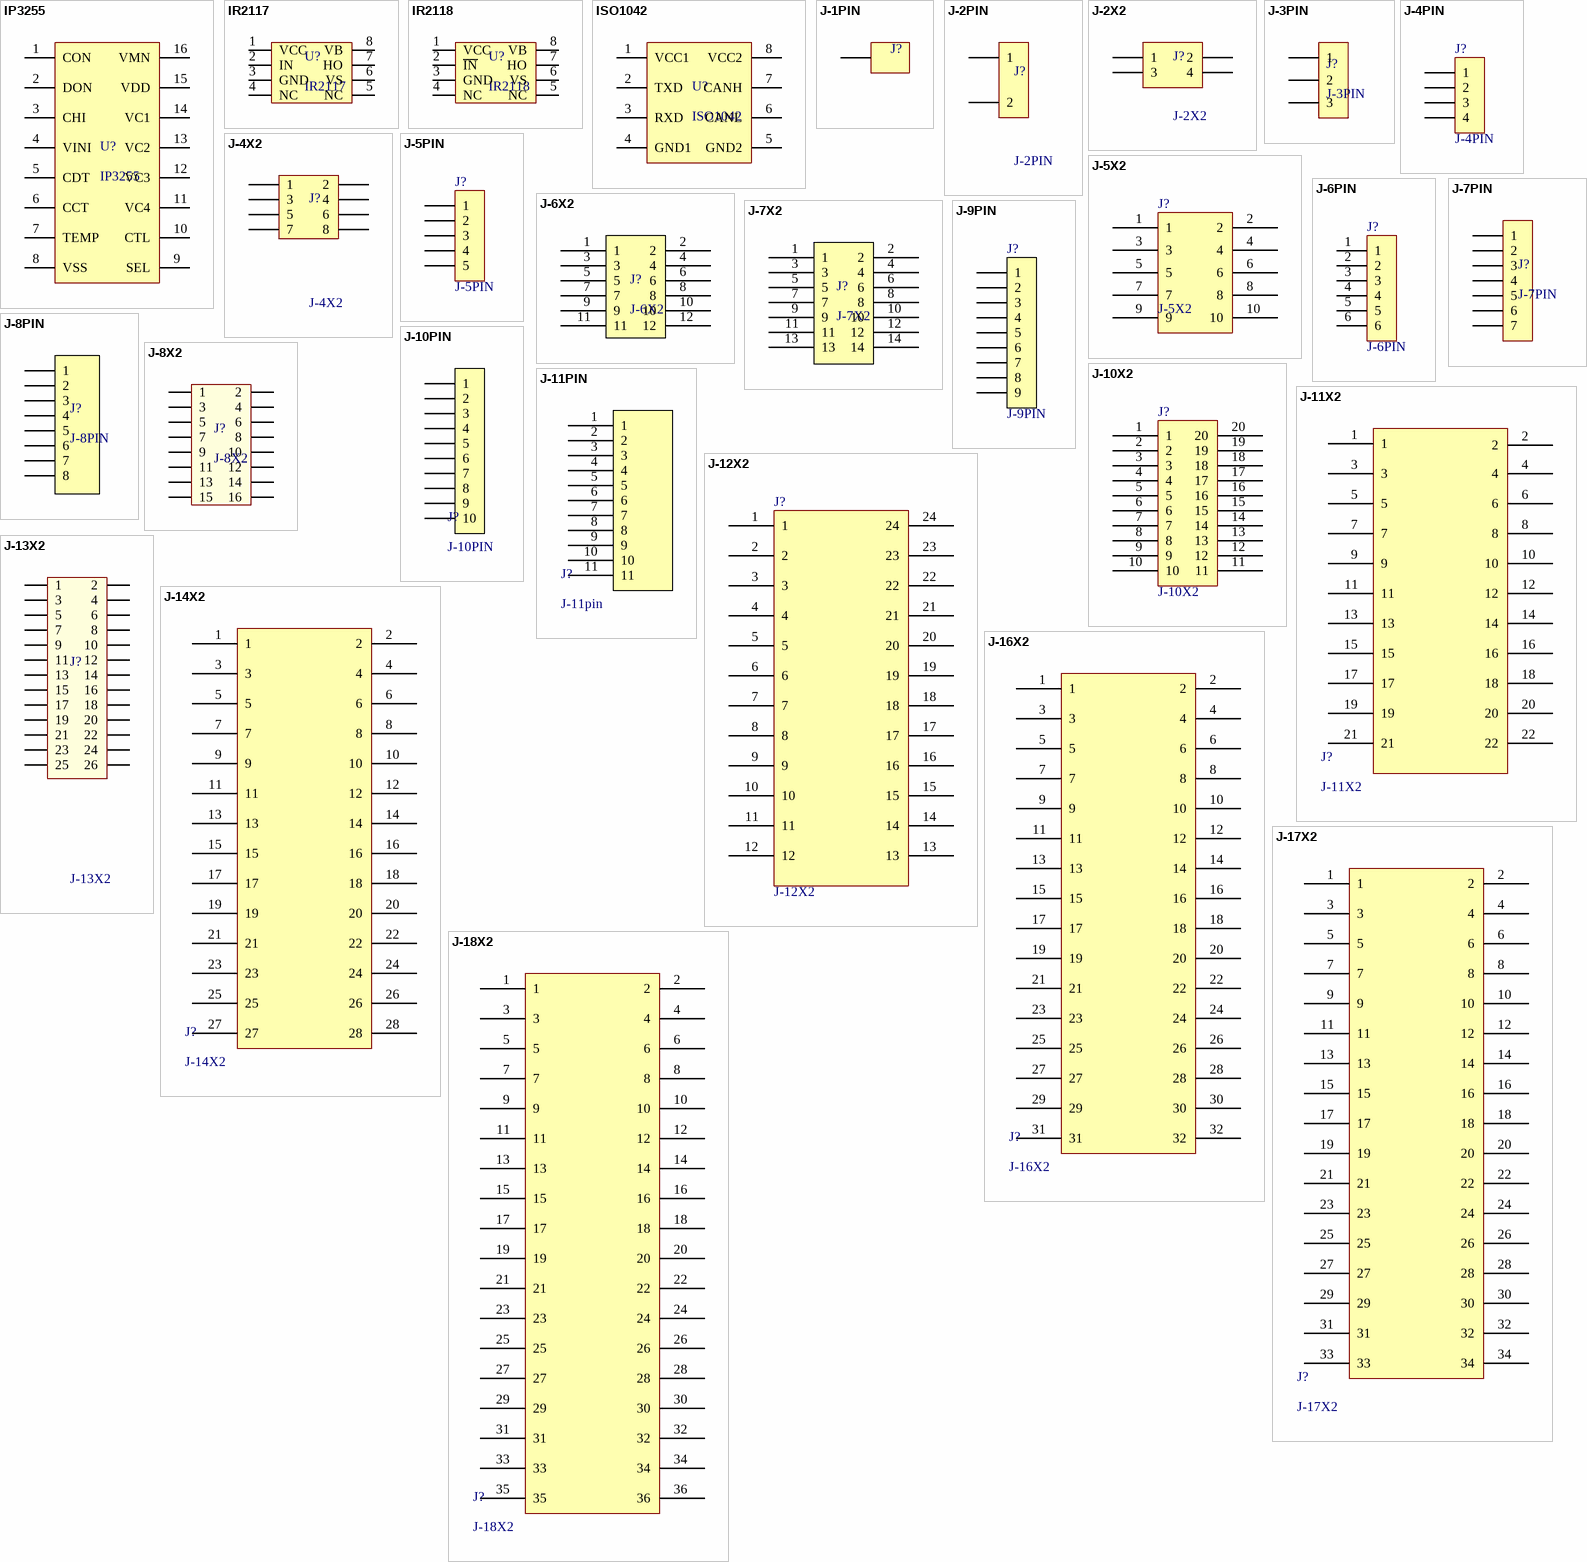
[diagram p4: symbols IP3255 to J-18X2]

## IP3255
designator U?
3 节/4 节串联用电池保护 IC
footprint TSSOP-16
pins: 1 CON, 2 DON, 3 CHI, 4 VINI, 5 CDT, 6 CCT, 7 TEMP, 8 VSS, 9 SEL, 10 CTL, 11 VC4, 12 VC3, 13 VC2, 14 VC1, 15 VDD, 16 VMN

## IR2117
designator U?
栅极驱动器
footprint SOIC-8 (SOIC, 8-Leads, Body 5.0x4.0mm (max), Pitch 1.27mm, IPC Medium Density)
pins: 1 VCC, 2 IN, 3 GND, 4 NC, 5 NC, 6 VS, 7 HO, 8 VB

## IR2118
designator U?
栅极驱动器
pins: 1 VCC, 2 ~{IN}, 3 GND, 4 NC, 5 NC, 6 VS, 7 HO, 8 VB

## ISO1042
designator U?
隔离型CAN收发器
footprint SOIC-8(7.5mm)
pins: 1 VCC1, 2 TXD, 3 RXD, 4 GND1, 5 GND2, 6 CANL, 7 CANH, 8 VCC2

## J-1PIN
designator J?
pins: 1 15

## J-2PIN
designator J?
pins: 1, 2

## J-2X2
designator J?
LatestRevisionDate: 17-Jul-2002; LatestRevisionNote: Re-released for DXP Platform.; Publisher: Altium Limited
pins: 1, 2, 3, 4

## J-3PIN
designator J?
pins: 1, 2, 3

## J-4PIN
designator J?
LatestRevisionDate: 17-Jul-2002; LatestRevisionNote: Re-released for DXP Platform.; Publisher: Altium Limited
pins: 1, 2, 3, 4

## J-4X2
designator J?
LatestRevisionDate: 17-Jul-2002; LatestRevisionNote: Re-released for DXP Platform.; Publisher: Altium Limited
pins: 1, 2, 3, 4, 5, 6, 7, 8

## J-5PIN
designator J?
LatestRevisionDate: 17-Jul-2002; LatestRevisionNote: Re-released for DXP Platform.; Publisher: Altium Limited
pins: 1, 2, 3, 4, 5

## J-5X2
designator J?
pins: 1, 2, 3, 4, 5, 6, 7, 8, 9, 10

## J-6PIN
designator J?
pins: 1, 2, 3, 4, 5, 6

## J-6X2
designator J?
footprint HDR2X6H (Connector; Header; 6x2 Position; Right Angle)
footprint HDR2X6 排座 (Connector; Header; 6x2 Position)
footprint HDR2X6 排针 (Connector; Header; 6x2 Position)
pins: 1, 2, 3, 4, 5, 6, 7, 8, 9, 10, 11, 12

## J-7PIN
designator J?
footprint HDR1X7 (Connector; Header; 7 Position)
pins: 1, 2, 3, 4, 5, 6, 7

## J-7X2
designator J?
footprint HDR2X7 (Connector; Header; 7x2 Position)
pins: 1, 2, 3, 4, 5, 6, 7, 8, 9, 10, 11, 12, 13, 14

## J-8PIN
designator J?
pins: 1, 2, 3, 4, 5, 6, 7, 8

## J-8X2
designator J?
footprint HDR2X8 (Connector; Header; 8x2 Position)
pins: 1, 2, 3, 4, 5, 6, 7, 8, 9, 10, 11, 12, 13, 14, 15, 16

## J-9PIN
designator J?
pins: 1, 2, 3, 4, 5, 6, 7, 8, 9

## J-10PIN
designator J?
pins: 1, 2, 3, 4, 5, 6, 7, 8, 9, 10

## J-10X2
designator J?
pins: 1, 2, 3, 4, 5, 6, 7, 8, 9, 10, 11, 12, 13, 14, 15, 16, 17, 18, 19, 20

## J-11PIN
designator J?, comment J-11pin
pins: 1, 2, 3, 4, 5, 6, 7, 8, 9, 10, 11

## J-11X2
designator J?
footprint HDR2X11 (Connector; Header; 11x2 Position)
pins: 1, 2, 3, 4, 5, 6, 7, 8, 9, 10, 11, 12, 13, 14, 15, 16, 17, 18, 19, 20, 21, 22

## J-12X2
designator J?
pins: 1, 2, 3, 4, 5, 6, 7, 8, 9, 10, 11, 12, 13, 14, 15, 16, 17, 18, 19, 20, 21, 22, 23, 24

## J-13X2
designator J?
pins: 1, 2, 3, 4, 5, 6, 7, 8, 9, 10, 11, 12, 13, 14, 15, 16, 17, 18, 19, 20, 21, 22, 23, 24, 25, 26

## J-14X2
designator J?
pins: 1, 2, 3, 4, 5, 6, 7, 8, 9, 10, 11, 12, 13, 14, 15, 16, 17, 18, 19, 20, 21, 22, 23, 24, 25, 26, 27, 28

## J-16X2
designator J?
pins: 1, 2, 3, 4, 5, 6, 7, 8, 9, 10, 11, 12, 13, 14, 15, 16, 17, 18, 19, 20, 21, 22, 23, 24, 25, 26, 27, 28, 29, 30, 31, 32

## J-17X2
designator J?
pins: 1, 2, 3, 4, 5, 6, 7, 8, 9, 10, 11, 12, 13, 14, 15, 16, 17, 18, 19, 20, 21, 22, 23, 24, 25, 26, 27, 28, 29, 30, 31, 32, 33, 34

## J-18X2
designator J?
pins: 1, 2, 3, 4, 5, 6, 7, 8, 9, 10, 11, 12, 13, 14, 15, 16, 17, 18, 19, 20, 21, 22, 23, 24, 25, 26, 27, 28, 29, 30, 31, 32, 33, 34, 35, 36

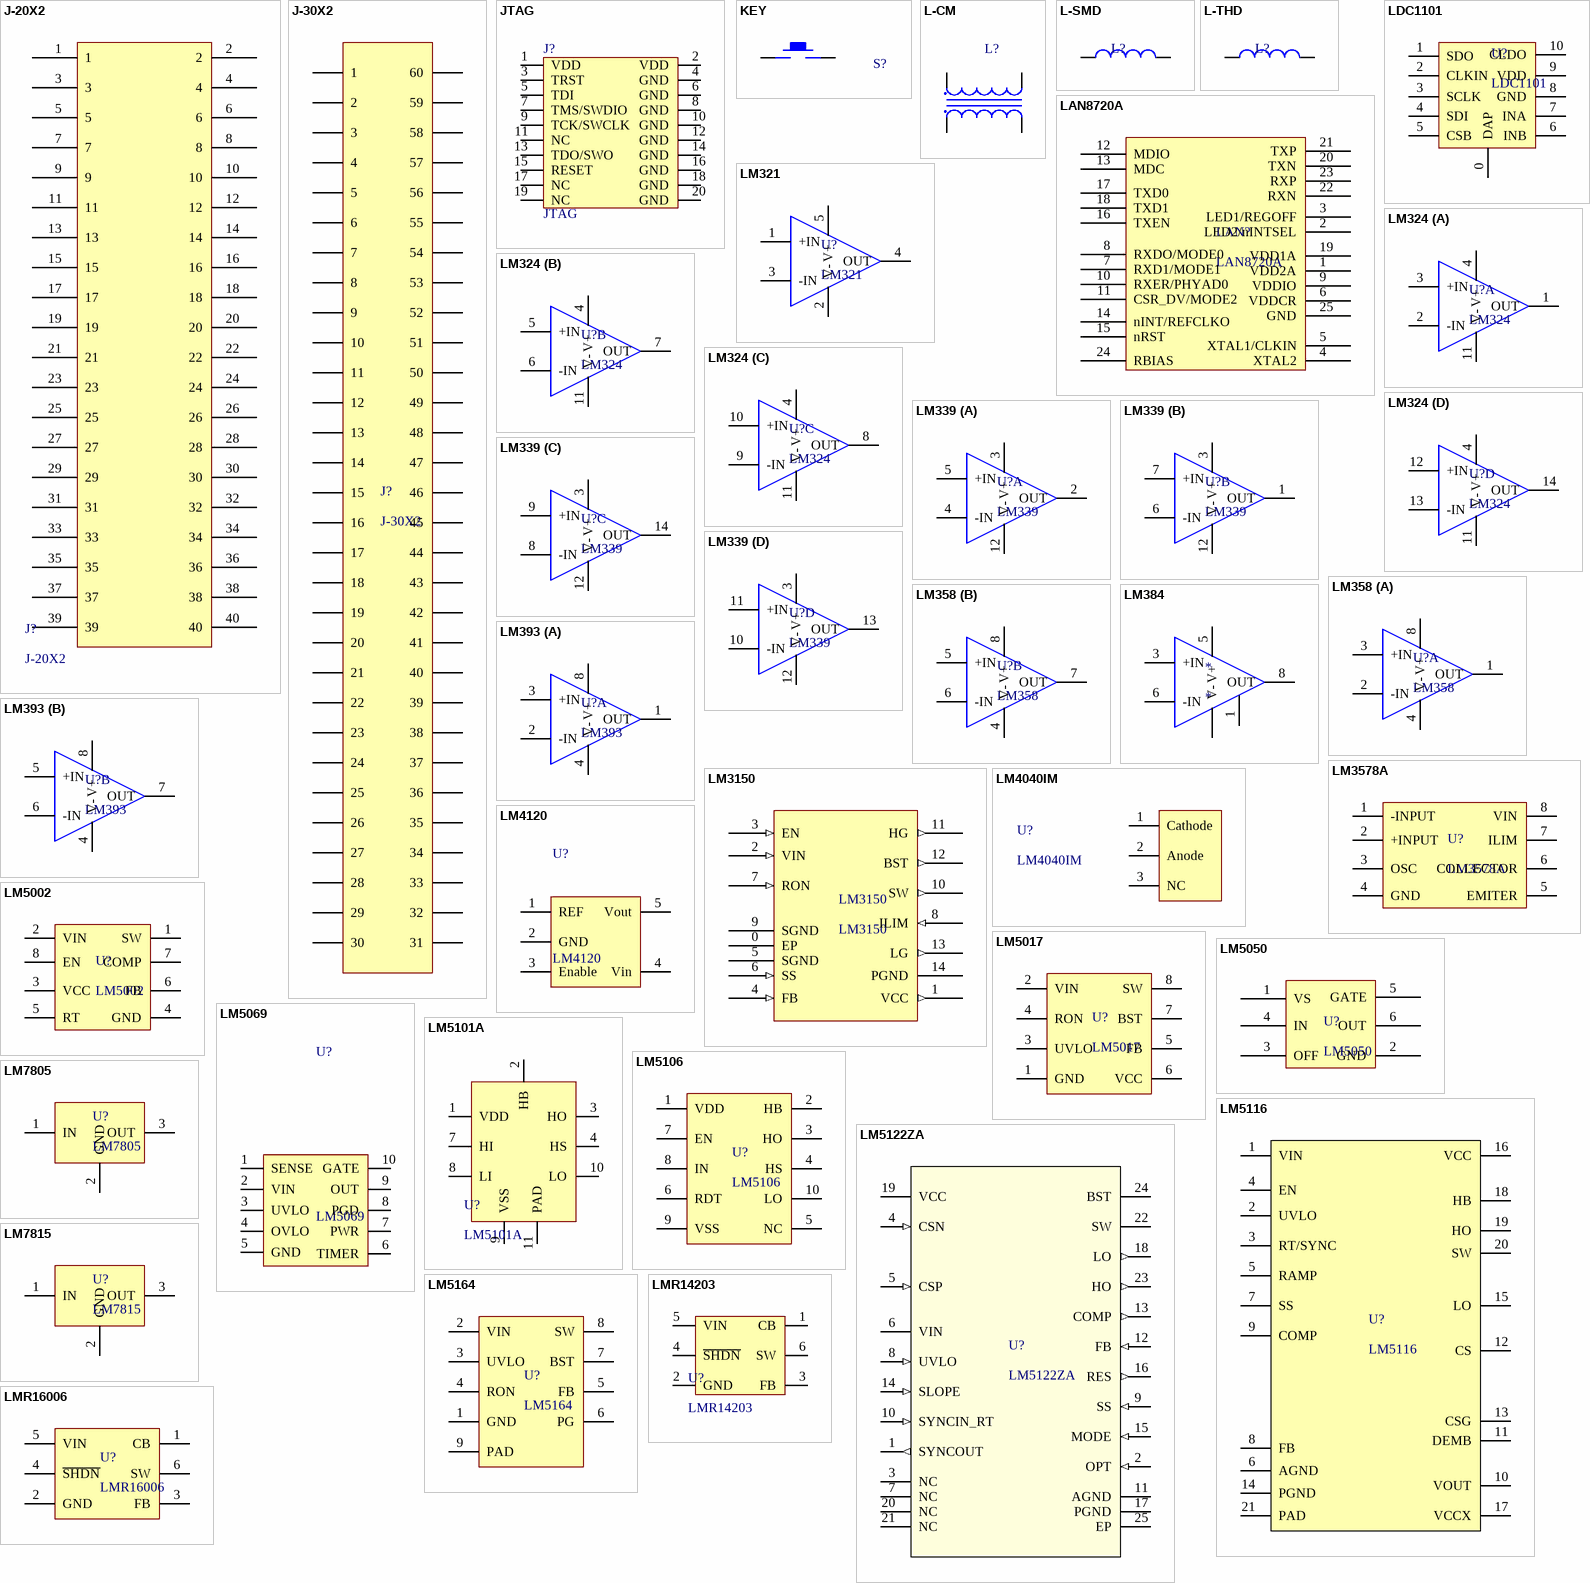
[diagram p5: symbols J-20X2 to LMR16006]

## J-20X2
designator J?
footprint HDR2X20
pins: 1, 2, 3, 4, 5, 6, 7, 8, 9, 10, 11, 12, 13, 14, 15, 16, 17, 18, 19, 20, 21, 22, 23, 24, 25, 26, 27, 28, 29, 30, 31, 32, 33, 34, 35, 36, 37, 38, 39, 40

## J-30X2
designator J?
pins: 1, 2, 3, 4, 5, 6, 7, 8, 9, 10, 11, 12, 13, 14, 15, 16, 17, 18, 19, 20, 21, 22, 23, 24, 25, 26, 27, 28, 29, 30, 31, 32, 33, 34, 35, 36, 37, 38, 39, 40, 41, 42, 43, 44, 45, 46, 47, 48, 49, 50, 51, 52, 53, 54, 55, 56, 57, 58, 59, 60

## JTAG
designator J?
footprint J-JTAG-20
pins: 1 VDD, 2 VDD, 3 TRST, 4 GND, 5 TDI, 6 GND, 7 TMS/SWDIO, 8 GND, 9 TCK/SWCLK, 10 GND, 11 NC, 12 GND, 13 TDO/SWO, 14 GND, 15 RESET, 16 GND, 17 NC, 18 GND, 19 NC, 20 GND

## KEY
designator S?  (value not drawn)
pins: 1, 2

## L-CM
designator L?
Common Mode Inductor
footprint LCM-THD-36.0*16.0
footprint LCM-UU16
footprint LCM-UU9.8
pins: 1, 2, 3, 4

## L-SMD
designator L?
Inductor
footprint L-0402
footprint L-0603
footprint L-0805
footprint L-1206
footprint L-1210
footprint L-SMD-5.5*5.2
footprint L-SMD-11.5*10.0
footprint L-SMD-17.5*17.5
footprint L-SMD-6.0*6.0
footprint L-SMD-13.5*12.5
footprint L-SMD-7.0*7.0
footprint L-SMD-3.5*3.3*1.8
footprint L-SMD-2.5*2.0*1.7
footprint L-SMD-3.0*3.0*1.5
footprint Model Name (Footprint not found)
footprint L-SMD-5.0*5.0*4.0
pins: 1, 2

## L-THD
designator L?
Inductor
footprint L-THD-30.0*16.0
footprint L-THD-65.0*42.0
footprint L-THD-70.0*40.0
footprint L-THD-30.0*30.0
pins: 1, 2

## LAN8720A
designator LAN?
RMALL以太网芯片
footprint QFN-24-4X4
pins: 1 VDD2A, 2 LED2/nINTSEL, 3 LED1/REGOFF "高侧地", 4 XTAL2, 5 XTAL1/CLKIN, 6 VDDCR, 7 RXD1/MODE1, 8 RXDO/MODE0, 9 VDDIO, 10 RXER/PHYAD0 "高侧地", 11 CSR_DV/MODE2, 12 MDIO, 13 MDC, 14 nINT/REFCLKO, 15 nRST, 16 TXEN, 17 TXD0, 18 TXD1, 19 VDD1A, 20 TXN, 21 TXP, 22 RXN, 23 RXP, 24 RBIAS, 25 GND

## LDC1101
designator U?
LC谐振电路Rp和L检测
footprint VSON-10
pins: 0 DAP, 1 SDO, 2 CLKIN, 3 SCLK, 4 SDI, 5 CSB, 6 INB, 7 INA, 8 GND, 9 VDD, 10 CLDO

## LM321
designator U?
单通道运放
footprint SOT-235 (SOT23, 5-Leads, Body 3.0x2.6mm (max), Pitch 0.95mm, IPC Medium Density)
pins: 1 +IN, 2 V-, 3 -IN, 4 OUT, 5 V+

## LM324
designator U?
四通道运放
footprint SOIC-14(4mm)
part A pins: 1 OUT, 2 -IN, 3 +IN, 4 V+, 11 V-
part B pins: 4 V+, 5 +IN, 6 -IN, 7 OUT, 11 V-
part C pins: 4 V+, 8 OUT, 9 -IN, 10 +IN, 11 V-
part D pins: 4 V+, 11 V-, 12 +IN, 13 -IN, 14 OUT

## LM339
designator U?
四通道电压比较器
footprint SOIC-14(4mm)
part A pins: 2 OUT, 3 V+, 4 -IN, 5 +IN, 12 V-
part B pins: 1 OUT, 3 V+, 6 -IN, 7 +IN, 12 V-
part C pins: 3 V+, 8 -IN, 9 +IN, 12 V-, 14 OUT
part D pins: 3 V+, 10 -IN, 11 +IN, 12 V-, 13 OUT

## LM358
designator U?
双通道运放
footprint SOIC-8(4mm) (SOIC, 8-Leads, Body 5.0x4.0mm (max), Pitch 1.27mm, IPC Medium Density)
part A pins: 1 OUT, 2 -IN, 3 +IN, 4 V-, 8 V+
part B pins: 4 V-, 5 +IN, 6 -IN, 7 OUT, 8 V+

## LM384
designator *
pins: 1 V-, 1 V-, 3 +IN, 5 V+, 6 -IN, 8 OUT

## LM393
designator U?
双通道电压比较器
footprint SOIC-8(4mm) (SOIC, 8-Leads, Body 5.0x4.0mm (max), Pitch 1.27mm, IPC Medium Density)
part A pins: 1 OUT, 2 -IN, 3 +IN, 4 V-, 8 V+
part B pins: 4 V-, 5 +IN, 6 -IN, 7 OUT, 8 V+

## LM3150
designator LM3150
Buck
pins: 0 EP, 1 VCC (out), 2 VIN (in), 3 EN (in), 4 FB (in), 5 SGND, 6 SS (in), 7 RON (in), 8 ILIM (in), 9 SGND, 10 SW (out), 11 HG (out), 12 BST (out), 13 LG (out), 14 PGND (power)

## LM3578A
designator U?
SEPIC
pins: 1 -INPUT, 2 +INPUT, 3 OSC, 4 GND, 5 EMITER, 6 COLLECTOR, 7 ILIM, 8 VIN

## LM4040IM
designator U?
基准电压IC(稳压二极管)
footprint SOT-233
pins: 1 Cathode, 2 Anode, 3 NC

## LM4120
designator U?
基准电压IC
footprint SOT-235 (SOT23, 5-Leads, Body 3.0x2.6mm (max), Pitch 0.95mm, IPC Medium Density)
pins: 1 REF, 2 GND, 3 Enable, 4 Vin, 5 Vout

## LM5002
designator U?
Boost
footprint SOIC-8 (SOIC, 8-Leads, Body 5.0x4.0mm (max), Pitch 1.27mm, IPC Medium Density)
pins: 1 SW, 2 VIN, 3 VCC, 4 GND, 5 RT, 6 FB, 7 COMP, 8 EN

## LM5017
designator U?
FlyBuck/Buck Converter
footprint SOIC-8(4mm) (SOIC, 8-Leads, Body 5.0x4.0mm (max), Pitch 1.27mm, IPC Medium Density)
pins: 1 GND, 2 VIN, 3 UVLO, 4 RON, 5 FB, 6 VCC, 7 BST, 8 SW

## LM5050
designator U?
ORing控制器
footprint SOT-236
pins: 1 VS, 2 GND, 3 OFF, 4 IN, 5 GATE, 6 OUT

## LM5069
designator U?
热拔插控制IC
pins: 1 SENSE, 2 VIN, 3 UVLO, 4 OVLO, 5 GND, 6 TIMER, 7 PWR, 8 PGD, 9 OUT, 10 GATE

## LM5101A
designator U?
3A Gata driver
footprint WSON-10
pins: 1 VDD, 2 HB, 3 HO, 4 HS, 7 HI, 8 LI, 9 VSS, 10 LO, 11 PAD

## LM5106
designator U?
带死区时间控制的半桥驱动器
footprint VSSOP-10(Pitch 0.5mm)
pins: 1 VDD, 2 HB, 3 HO, 4 HS, 5 NC, 6 RDT, 7 EN, 8 IN, 9 VSS, 10 LO

## LM5116
designator U?
同步Buck控制器
footprint HTSSOP-20
pins: 1 VIN (power), 2 UVLO (power), 3 RT/SYNC (power), 4 EN (power), 5 RAMP (power), 6 AGND (power), 7 SS (power), 8 FB (power), 9 COMP (power), 10 VOUT (power), 11 DEMB (power), 12 CS (power), 13 CSG (power), 14 PGND (power), 15 LO (power), 16 VCC (power), 17 VCCX (power), 18 HB (power), 19 HO (power), 20 SW (power), 21 PAD

## LM5122ZA
designator U?
同步Boost控制器; PartNumber: LM5122ZPWPR; Manufacturer: Texas Instruments; RefDes: RefDes; TYPE: TYPE; Value: Value
footprint HTSSOP-24
pins: 1 SYNCOUT (out), 2 OPT (in), 3 NC, 4 CSN (in), 5 CSP (in), 6 VIN (power), 7 NC, 8 UVLO (in), 9 SS (in), 10 SYNCIN_RT (in), 11 AGND, 12 FB (in), 13 COMP (out), 14 SLOPE (in), 15 MODE (in), 16 RES (out), 17 PGND, 18 LO (out), 19 VCC (power), 20 NC, 21 NC, 22 SW (power), 23 HO (out), 24 BST (power), 25 EP

## LM5164
designator U?
Buck Converter
footprint HSOIC-8(4mm)
pins: 1 GND, 2 VIN, 3 UVLO, 4 RON, 5 FB, 6 PG, 7 BST, 8 SW, 9 PAD

## LM7805
designator U?
线性稳压器
footprint TO-220-3
pins: 1 IN, 2 GND, 3 OUT

## LM7815
designator U?
线性稳压器
footprint TO-220-3
pins: 1 IN, 2 GND, 3 OUT

## LMR14203
designator U?
BUCK 300mA
footprint SOT-236
pins: 1 CB, 2 GND, 3 FB, 4 ~{SHDN}, 5 VIN, 6 SW

## LMR16006
designator U?
Buck Converter
footprint SOT-236
footprint SOT-236
pins: 1 CB, 2 GND, 3 FB, 4 ~{SHDN}, 5 VIN, 6 SW

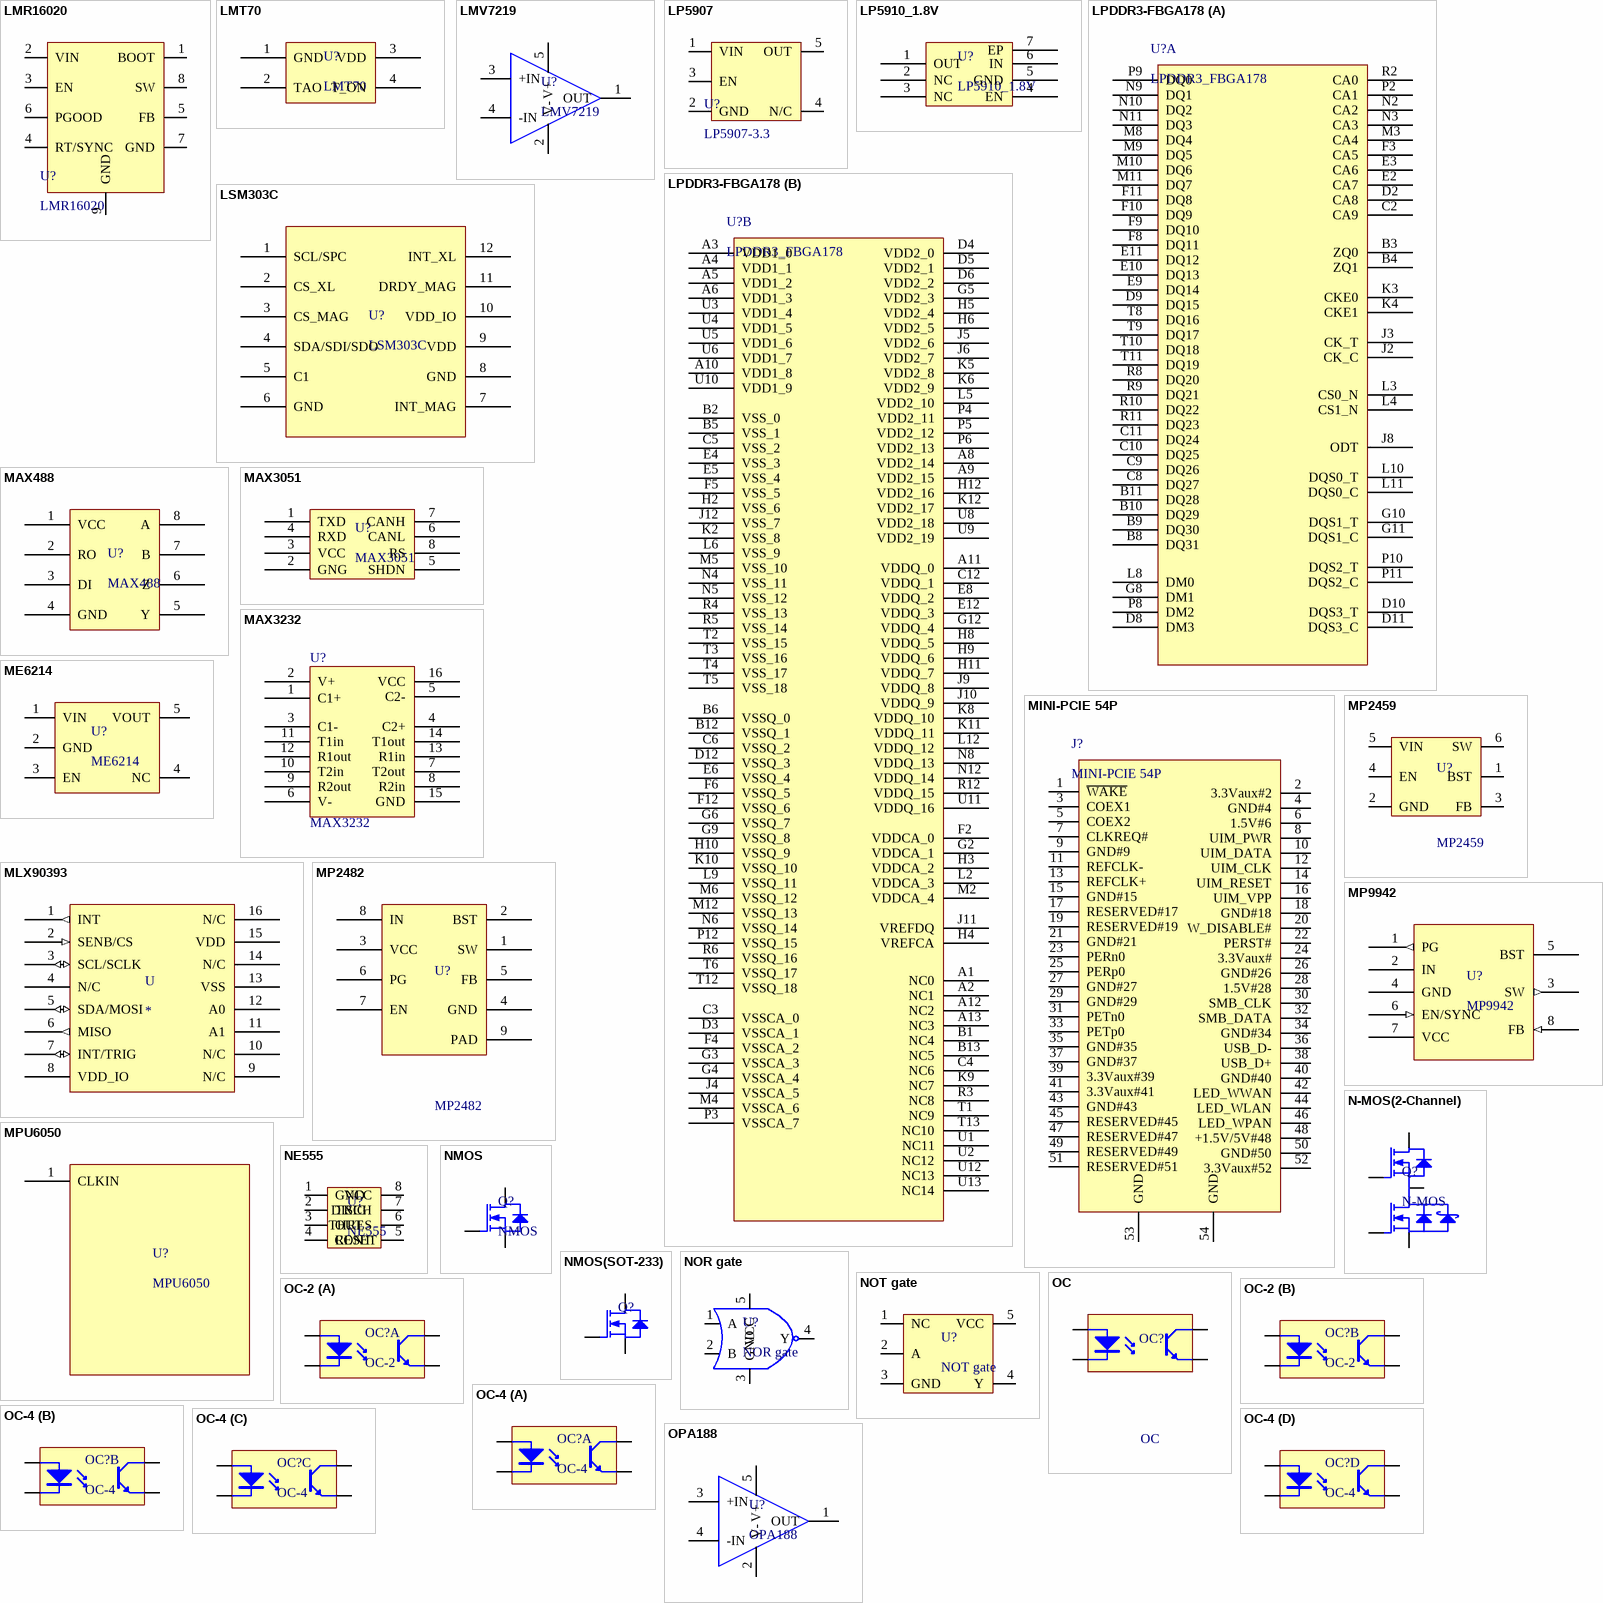
[diagram p6: symbols LMR16020 to OPA188]

## LMR16020
designator U?
60V 2A BUCK
footprint HSOIC-8(4mm)
pins: 1 BOOT, 2 VIN, 3 EN, 4 RT/SYNC, 5 FB, 6 PGOOD, 7 GND, 8 SW, 9 GND

## LMT70
designator U?
模拟温度传感器
footprint DSBGA-4 - duplicate (BGA, 4-Leads, Body 0.88x0.88mmx0.68mm, Pitch 0.40mm); pin to pad 1>A1 2>B1 3>A2 4>B2
pins: 1 GND, 2 TAO, 3 VDD, 4 T_ON

## LMV7219
designator U?
比较器
footprint SOT-235 (SOT23, 5-Leads, Body 3.0x2.6mm (max), Pitch 0.95mm, IPC Medium Density)
pins: 1 OUT, 2 V-, 3 +IN, 4 -IN, 5 V+

## LP5907
designator U?, comment LP5907-3.3
超高共模抑制比 250mA 120mV压降
footprint SOT-235 (SOT23, 5-Leads, Body 3.0x2.6mm (max), Pitch 0.95mm, IPC Medium Density)
pins: 1 VIN, 2 GND, 3 EN, 4 N/C, 5 OUT

## LP5910_1.8V
designator U?
LDO
pins: 1 OUT, 2 NC, 3 NC, 4 EN, 5 GND, 6 IN, 7 EP

## LPDDR3-FBGA178
designator U?, comment LPDDR3_FBGA178
footprint FBGA-178
part A pins: B3 ZQ0, B4 ZQ1, B8 DQ31, B9 DQ30, B10 DQ29, B11 DQ28, C2 CA9, C8 DQ27, C9 DQ26, C10 DQ25, C11 DQ24, D2 CA8, D8 DM3, D9 DQ15, D10 DQS3_T, D11 DQS3_C, E2 CA7, E3 CA6, E9 DQ14, E10 DQ13, E11 DQ12, F3 CA5, F8 DQ11, F9 DQ10, F10 DQ9, F11 DQ8, G8 DM1, G10 DQS1_T, G11 DQS1_C, J2 CK_C, J3 CK_T, J8 ODT, K3 CKE0, K4 CKE1, L3 CS0_N, L4 CS1_N, L8 DM0, L10 DQS0_T, L11 DQS0_C, M3 CA4, M8 DQ4, M9 DQ5, M10 DQ6, M11 DQ7, N2 CA2, N3 CA3, N9 DQ1, N10 DQ2, N11 DQ3, P2 CA1, P8 DM2, P9 DQ0, P10 DQS2_T, P11 DQS2_C, R2 CA0, R8 DQ20, R9 DQ21, R10 DQ22, R11 DQ23, T8 DQ16, T9 DQ17, T10 DQ18, T11 DQ19
part B pins: A1 NC0, A2 NC1, A3 VDD1_0, A4 VDD1_1, A5 VDD1_2, A6 VDD1_3, A8 VDD2_14, A9 VDD2_15, A10 VDD1_8, A11 VDDQ_0, A12 NC2, A13 NC3, B1 NC4, B2 VSS_0, B5 VSS_1, B6 VSSQ_0, B12 VSSQ_1, B13 NC5, C3 VSSCA_0, C4 NC6, C5 VSS_2, C6 VSSQ_2, C12 VDDQ_1, D3 VSSCA_1, D4 VDD2_0, D5 VDD2_1, D6 VDD2_2, D12 VSSQ_3, E4 VSS_3, E5 VSS_4, E6 VSSQ_4, E8 VDDQ_2, E12 VDDQ_3, F2 VDDCA_0, F4 VSSCA_2, F5 VSS_5, F6 VSSQ_5, F12 VSSQ_6, G2 VDDCA_1, G3 VSSCA_3, G4 VSSCA_4, G5 VDD2_3, G6 VSSQ_7, G9 VSSQ_8, G12 VDDQ_4, H2 VSS_6, H3 VDDCA_2, H4 VREFCA, H5 VDD2_4, H6 VDD2_5, H8 VDDQ_5, H9 VDDQ_6, H10 VSSQ_9, H11 VDDQ_7, H12 VDD2_16, J4 VSSCA_5, J5 VDD2_6, J6 VDD2_7, J9 VDDQ_8, J10 VDDQ_9, J11 VREFDQ, J12 VSS_7, K2 VSS_8, K5 VDD2_8, K6 VDD2_9, K8 VDDQ_10, K9 NC7, K10 VSSQ_10, K11 VDDQ_11, K12 VDD2_17, L2 VDDCA_3, L5 VDD2_10, L6 VSS_9, L9 VSSQ_11, L12 VDDQ_12, M2 VDDCA_4, M4 VSSCA_6, M5 VSS_10, M6 VSSQ_12, M12 VSSQ_13, N4 VSS_11, N5 VSS_12, N6 VSSQ_14, N8 VDDQ_13, N12 VDDQ_14, P3 VSSCA_7, P4 VDD2_11, P5 VDD2_12, P6 VDD2_13, P12 VSSQ_15, R3 NC8, R4 VSS_13, R5 VSS_14, R6 VSSQ_16, R12 VDDQ_15, T1 NC9, T2 VSS_15, T3 VSS_16, T4 VSS_17, T5 VSS_18, T6 VSSQ_17, T12 VSSQ_18, T13 NC10, U1 NC11, U2 NC12, U3 VDD1_4, U4 VDD1_5, U5 VDD1_6, U6 VDD1_7, U8 VDD2_18, U9 VDD2_19, U10 VDD1_9, U11 VDDQ_16, U12 NC13, U13 NC14

## LSM303C
designator U?
磁力计
footprint LGA-12
pins: 1 SCL/SPC, 2 CS_XL, 3 CS_MAG, 4 SDA/SDI/SDO, 5 C1, 6 GND, 7 INT_MAG, 8 GND, 9 VDD, 10 VDD_IO, 11 DRDY_MAG, 12 INT_XL

## MAX488
designator U?
RS-422全双工通信
footprint SOIC-8 (SOIC, 8-Leads, Body 5.0x4.0mm (max), Pitch 1.27mm, IPC Medium Density)
pins: 1 VCC, 2 RO, 3 DI, 4 GND, 5 Y, 6 Z, 7 B, 8 A

## MAX3051
designator U?
CAN IC
pins: 1 TXD, 2 GNG, 3 VCC, 4 RXD, 5 SHDN, 6 CANL, 7 CANH, 8 RS

## MAX3232
designator U?
RS-232 IC
pins: 1 C1+, 2 V+, 3 C1-, 4 C2+, 5 C2-, 6 V-, 7 T2out, 8 R2in, 9 R2out, 10 T2in, 11 T1in, 12 R1out, 13 R1in, 14 T1out, 15 GND, 16 VCC

## ME6214
designator U?
5V LDO 300mA / Vdrop: 0.16v@100mA
footprint SOT-235 (SOT23, 5-Leads, Body 3.0x2.6mm (max), Pitch 0.95mm, IPC Medium Density)
pins: 1 VIN, 2 GND, 3 EN, 4 NC, 5 VOUT

## MINI-PCIE 54P
designator J?
footprint MINI PCI EXPRESS 52P
pins: 1 ~{WAKE}, 2 3.3Vaux#2, 3 COEX1, 4 GND#4, 5 COEX2, 6 1.5V#6, 7 CLKREQ#, 8 UIM_PWR, 9 GND#9, 10 UIM_DATA, 11 REFCLK-, 12 UIM_CLK, 13 REFCLK+, 14 UIM_RESET, 15 GND#15, 16 UIM_VPP, 17 RESERVED#17, 18 GND#18, 19 RESERVED#19, 20 W_DISABLE#, 21 GND#21, 22 PERST#, 23 PERn0, 24 3.3Vaux#, 25 PERp0, 26 GND#26, 27 GND#27, 28 1.5V#28, 29 GND#29, 30 SMB_CLK, 31 PETn0, 32 SMB_DATA, 33 PETp0, 34 GND#34, 35 GND#35, 36 USB_D-, 37 GND#37, 38 USB_D+, 39 3.3Vaux#39, 40 GND#40, 41 3.3Vaux#41, 42 LED_WWAN, 43 GND#43, 44 LED_WLAN, 45 RESERVED#45, 46 LED_WPAN, 47 RESERVED#47, 48 +1.5V/5V#48, 49 RESERVED#49, 50 GND#50, 51 RESERVED#51, 52 3.3Vaux#52, 53 GND, 54 GND

## MLX90393
designator U
三轴磁力计
footprint QFN-16-3X3
pins: 1 INT (out), 2 SENB/CS (in), 3 SCL/SCLK (io), 4 N/C, 5 SDA/MOSI (io), 6 MISO (out), 7 INT/TRIG (io), 8 VDD_IO (power), 9 N/C, 10 N/C, 11 A1, 12 A0, 13 VSS (power), 14 N/C, 15 VDD (power), 16 N/C

## MP2459
designator U?
Buck IC
footprint SOT-236
pins: 1 BST, 2 GND, 3 FB, 4 EN, 5 VIN, 6 SW

## MP2482
designator U?
Buck IC
pins: 1 SW, 2 BST, 3 VCC, 4 GND, 5 FB, 6 PG, 7 EN, 8 IN, 9 PAD

## MP9942
designator U?
Buck
pins: 1 PG (out), 2 IN (power), 3 SW (out), 4 GND (power), 5 BST, 6 EN/SYNC (in), 7 VCC (power), 8 FB (in)

## MPU6050
designator U?
陀螺仪
pins: 1 CLKIN

## N-MOS(2-Channel)
designator Q?, comment N-MOS
footprint DFN-8
pins: 1 G1, 2 D1, 5 S2, 8 G2, 10 S1/D2

## NE555
designator U?
555时基集成电路
footprint SOIC-8 (SOIC, 8-Leads, Body 5.0x4.0mm (max), Pitch 1.27mm, IPC Medium Density)
pins: 1 GND, 2 TRIG, 3 OUT, 4 RESET, 5 CONT, 6 THRES, 7 DISCH, 8 VCC

## NMOS
designator Q?
footprint SON-3.0*3.0MM
footprint SON-5.0*6.0MM
footprint TO-263-7
footprint TO-252-3 (Footprint not found)
footprint TO-220-3
footprint TO-92
footprint HSOF-8
footprint DirectFET_L8
footprint SO-8FL  5*6; pin to pad 1>4 2>5 3>1
footprint TO-263-2
pins: 1 G, 2 D, 3 S

## NMOS(SOT-233)
designator Q?
NMOS(SOT-233)
footprint SOT-233
pins: 1 G, 2 S, 3 D

## NOR gate
designator U?
footprint SOT-235 (SOT23, 5-Leads, Body 3.0x2.6mm (max), Pitch 0.95mm, IPC Medium Density)
pins: 1 A, 2 B, 3 GND, 4 Y, 5 VCC

## NOT gate
designator U?
NOT gate 带有施密特触发器功能
footprint SOT-753
pins: 1 NC, 2 A, 3 GND, 4 Y, 5 VCC

## OC
designator OC?
Published: 24-Mar-1999; LatestRevisionDate: 04-Mar-2005; LatestRevisionNote: Sch pins 3 & 4 Swapped.; DatasheetVersion: Nov-2003; PackageReference: DIP-4; Publisher: Altium Limited
pins: 1, 2, 3, 4

## OC-2
designator OC?
part A pins: 1, 2, 7, 8
part B pins: 3, 4, 5, 6

## OC-4
designator OC?
part A pins: 1, 2, 15, 16
part B pins: 3, 4, 13, 14
part C pins: 5, 6, 11, 12
part D pins: 7, 8, 9, 10

## OPA188
designator U?
精密运放
footprint SOT-235 (SOT23, 5-Leads, Body 3.0x2.6mm (max), Pitch 0.95mm, IPC Medium Density)
pins: 1 OUT, 2 V-, 3 +IN, 4 -IN, 5 V+

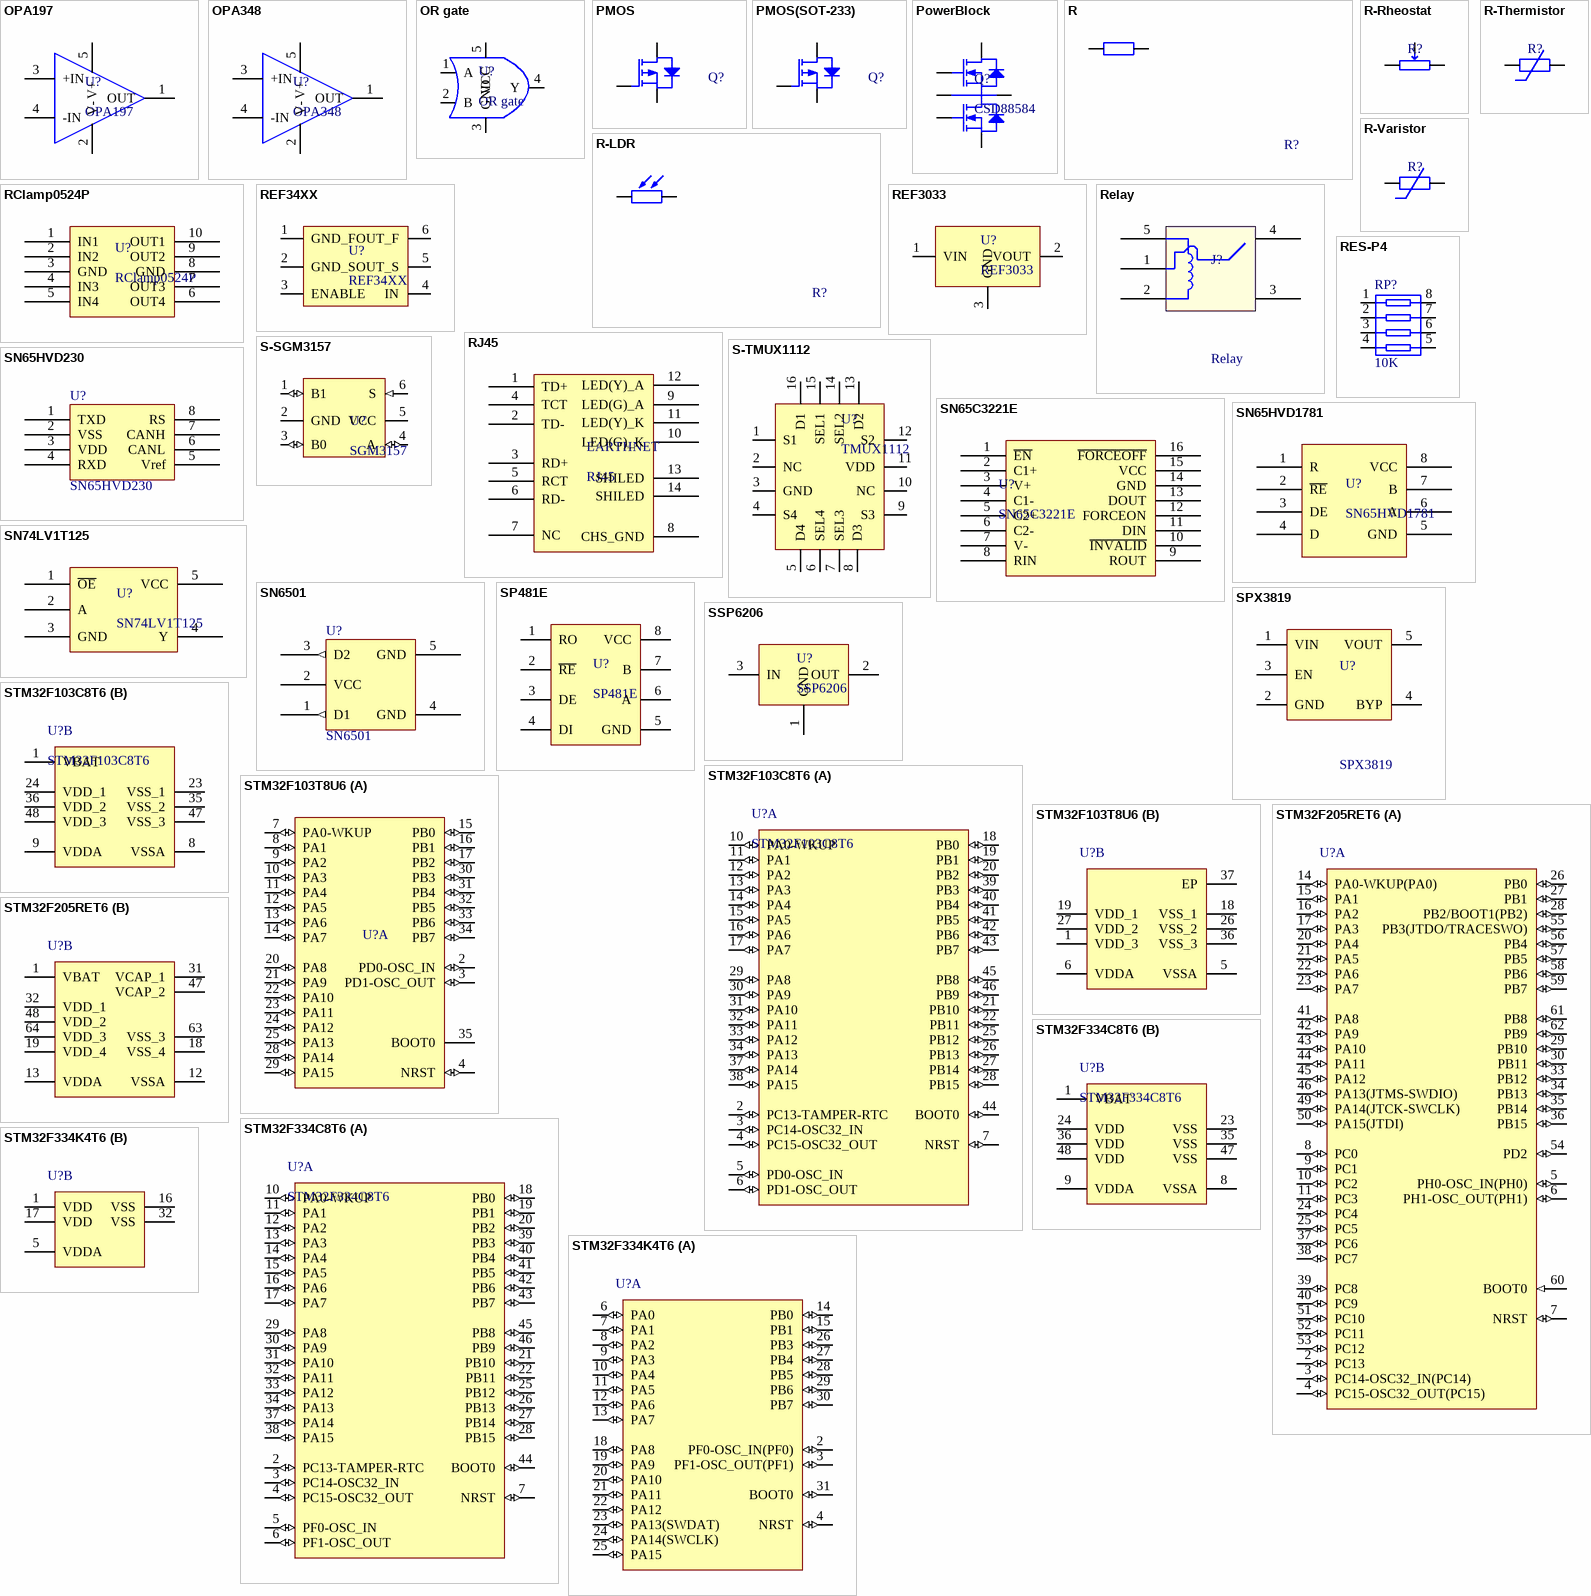
[diagram p7: symbols OPA197 to STM32F334K4T6]

## OPA197
designator U?
精密运放
footprint SOT-235 (SOT23, 5-Leads, Body 3.0x2.6mm (max), Pitch 0.95mm, IPC Medium Density)
pins: 1 OUT, 2 V-, 3 +IN, 4 -IN, 5 V+

## OPA348
designator U?
通用运放
footprint SOT-235 (SOT23, 5-Leads, Body 3.0x2.6mm (max), Pitch 0.95mm, IPC Medium Density)
pins: 1 OUT, 2 V-, 3 +IN, 4 -IN, 5 V+

## OR gate
designator U?
pins: 1 A, 2 B, 3 GND, 4 Y, 5 VCC

## PMOS
designator Q?
PMOS
footprint TO-252
footprint TO-263-7
footprint TO-263-3
pins: 1 G, 2 D, 3 S

## PMOS(SOT-233)
designator Q?
PMOS
footprint SOT-233
pins: 1 G, 2 S, 3 D

## PowerBlock
designator Q?, comment CSD88584
NMOS半桥
footprint VSON-CLIP-22(5.0*6.0)
pins: 1 GH, 2 SH, 3 SW, 4 PGND, 6 GL, 7 Vin

## R
designator R?
Resistor
footprint R-0402
footprint R-0603
footprint R-0805
footprint R-1206
footprint R-1210
footprint R-2512
footprint R-2725
footprint R-3925
footprint R-5930
pins: 1, 2

## R-LDR
designator R?
光敏电阻
pins: 1, 2

## R-Rheostat
designator R?
电位器
footprint RP-3296W
footprint RP-3362P
footprint RP-WH148
pins: 1, 2, 3

## R-Thermistor
designator R?
热敏电阻
pins: 1, 2

## R-Varistor
designator R?
压敏电阻
footprint RV-10.0
pins: 1, 2

## RClamp0524P
designator U?
ESD芯片 单通道结电容0.3PF
footprint SLP2510P8
pins: 1 IN1, 2 IN2, 3 GND, 4 IN3, 5 IN4, 6 OUT4, 7 OUT3, 8 GND, 9 OUT2, 10 OUT1

## REF34XX
designator U?
基准电压IC
footprint SOT-236
pins: 1 GND_F, 2 GND_S, 3 ENABLE, 4 IN, 5 OUT_S, 6 OUT_F

## REF3033
designator U?
基准电压芯片
footprint SOT-233
pins: 1 VIN, 2 VOUT, 3 GND

## Relay
designator J?
继电器
pins: 1, 2, 3, 4, 5

## RES-P4
designator RP?, comment 10K
pins: 1, 2, 3, 4, 5, 6, 7, 8
2 alternate drawings of the same symbol

## RJ45
designator EARTHNET
以太网接口
footprint RJ45
pins: 1 TD+, 2 TD-, 3 RD+, 4 TCT, 5 RCT, 6 RD-, 7 NC, 8 CHS_GND, 9 LED(G)_A, 10 LED(G)_K, 11 LED(Y)_K, 12 LED(Y)_A, 13 SHILED, 14 SHILED

## S-SGM3157
designator U?, comment SGM3157
模拟开关（gng-vcc） / 电源1.65-5.5V传输延迟1ns左右
footprint SOT-363
pins: 1 B1 (io), 2 GND (power), 3 B0 (io), 4 A (io), 5 VCC (power), 6 S (in)

## S-TMUX1112
designator U?, comment TMUX1112
模拟开关
footprint UQFN-16-2.6*1.8
pins: 1 S1, 2 NC, 3 GND, 4 S4, 5 D4, 6 SEL4, 7 SEL3, 8 D3, 9 S3, 10 NC, 11 VDD, 12 S2, 13 D2, 14 SEL2, 15 SEL1, 16 D1

## SN65C3221E
designator U?
232芯片
footprint SSOP-16
pins: 1 ~{EN}, 2 C1+, 3 V+, 4 C1-, 5 C2+, 6 C2-, 7 V-, 8 RIN, 9 ROUT, 10 ~{INVALID}, 11 DIN, 12 FORCEON, 13 DOUT, 14 GND, 15 VCC, 16 ~{FORCEOFF}

## SN65HVD230
designator U?
footprint SOp-8 (SOP, 8-Leads, Body 5.0x4.0mm (max), Pitch 1.27mm, IPC Medium Density)
pins: 1 TXD, 2 VSS, 3 VDD, 4 RXD, 5 Vref, 6 CANL, 7 CANH, 8 RS

## SN65HVD1781
designator U?
footprint SOIC-8(4mm) (SOIC, 8-Leads, Body 5.0x4.0mm (max), Pitch 1.27mm, IPC Medium Density)
pins: 1 R, 2 ~{RE}, 3 DE, 4 D, 5 GND, 6 A, 7 B, 8 VCC

## SN74LV1T125
designator U?
电平转换芯片
footprint SOT-235 (SOT23, 5-Leads, Body 3.0x2.6mm (max), Pitch 0.95mm, IPC Medium Density)
pins: 1 ~{OE}, 2 A, 3 GND, 4 Y, 5 VCC

## SN6501
designator U?
隔离变压驱动器
pins: 1 D1 (out), 2 VCC (power), 3 D2 (out), 4 GND (power), 5 GND (power)

## SP481E
designator U?
TTL-485 5V供电
footprint SOIC-8(4mm) (SOIC, 8-Leads, Body 5.0x4.0mm (max), Pitch 1.27mm, IPC Medium Density)
pins: 1 RO, 2 ~{RE}, 3 DE, 4 DI, 5 GND, 6 A, 7 B, 8 VCC

## SPX3819
designator U?
LDO
footprint SOT-235 (SOT23, 5-Leads, Body 3.0x2.6mm (max), Pitch 0.95mm, IPC Medium Density)
pins: 1 VIN, 2 GND, 3 EN, 4 BYP, 5 VOUT

## SSP6206
designator U?
LDO
footprint SOT-233
pins: 1 GND, 2 OUT, 3 IN

## STM32F103C8T6
designator U?
ARM Cortex-M3 32-bit MCU, 64 KB Flash, 20 KB Internal RAM, 37 I/Os, 48-pin LQFP, -40 to 85 degC, Tray
footprint STM-LQFP48_M (QFP, 48-Leads, Body 7x7mm, Pitch 0.5mm, IPC Low Density)
part A pins: 2 PC13-TAMPER-RTC (io) "PC13-TAMPER-RTC/PC13/TAMPER-RTC", 3 PC14-OSC32_IN (io) "PC14-OSC32_IN/PC14/OSC32_IN", 4 PC15-OSC32_OUT (io) "PC15-OSC32_OUT/PC15/OSC32_OUT", 5 PD0-OSC_IN (io) "PD0/OSC_IN", 6 PD1-OSC_OUT (io) "PD1/OSC_OUT", 7 NRST (io), 10 PA0-WKUP (io) "PA0-WKUP/PA0/WKUP/USART2_CTS/ADC12_IN0/TIM2_CH1_ETR", 11 PA1 (io) "PA1/USART2_RTS/ADC12_IN1/TIM2_CH2", 12 PA2 (io) "PA2/USART2_TX/ADC12_IN2/TIM2_CH3", 13 PA3 (io) "PA3/USART2_RX/ADC12_IN3/TIM2_CH4", 14 PA4 (io) "PA4/SPI1_NSS/USART2_CK/ADC12_IN4", 15 PA5 (io) "PA5/SPI1_SCK/ADC12_IN5", 16 PA6 (io) "PA6/SPI1_MISO/ADC12_IN6/TIM3_CH1/TIM1_BKIN", 17 PA7 (io) "PA7/SPI1_MOSI/ADC12_IN7/TIM3_CH2/TIM1_CH1N", 18 PB0 (io) "PB0/ADC12_IN8/TIM3_CH3/TIM1_CH2N", 19 PB1 (io) "PB1/ADC12_IN9/TIM3_CH4/TIM1_CH3N", 20 PB2 (io) "PB2/BOOT1", 21 PB10 (io) "PB10/I2C2_SCL/USART3_TX/TIM2_CH3", 22 PB11 (io) "PB11/I2C2_SDA/USART3_RX/TIM2_CH4", 25 PB12 (io) "PB12/SPI2_NSS/I2C2_SMBAl/USART3_CK/TIM1_BKIN", 26 PB13 (io) "PB13/SPI2_SCK/USART3_CTS/TIM1_CH1N", 27 PB14 (io) "PB14/SPI2_MISO/USART3_RTS/TIM1_CH2N", 28 PB15 (io) "PB15/SPI2_MOSI/TIM1_CH3N", 29 PA8 (io) "PA8/USART1_CK/TIM1_CH1/MCO", 30 PA9 (io) "PA9/USART1_TX/TIM1_CH2", 31 PA10 (io) "PA10/USART1_RX/TIM1_CH3", 32 PA11 (io) "PA11/USART1_CTS/CANRX/USBDM/TIM1_CH4", 33 PA12 (io) "PA12/USART1_RTS/CANTX/USBDP/TIM1_ETR", 34 PA13 (io) "PA13/JTMS/SWDIO", 37 PA14 (io) "PA14/JTCK/SWCLK", 38 PA15 (io) "PA15/JTDI/TIM2_CH1_ETR/SPI1_NSS", 39 PB3 (io) "PB3/JTDO/TIM2_CH2/TRACESWO/SPI1_SCK", 40 PB4 (io) "PB4/NJTRST/TIM3_CH1/SPI1_MISO", 41 PB5 (io) "PB5/I2C1_SMBAI/TIM3_CH2/SPI1_MOSI", 42 PB6 (io) "PB6/I2C1_SCL/TIM4_CH1/USART1_TX", 43 PB7 (io) "PB7/I2C1_SDA/TIM4_CH2/USART1_RX", 44 BOOT0 (io), 45 PB8 (io) "PB8/TIM4_CH3/I2C1_SCL/CANRX", 46 PB9 (io) "PB9/TIM4_CH4/I2C1_SDA/CANTX"
part B pins: 1 VBAT (power), 8 VSSA (power), 9 VDDA (power), 23 VSS_1 (power), 24 VDD_1 (power), 35 VSS_2 (power), 36 VDD_2 (power), 47 VSS_3 (power), 48 VDD_3 (power)